# Altium schematic symbol library STM32f1.SchLib: 244 symbols (part 18 of 24)
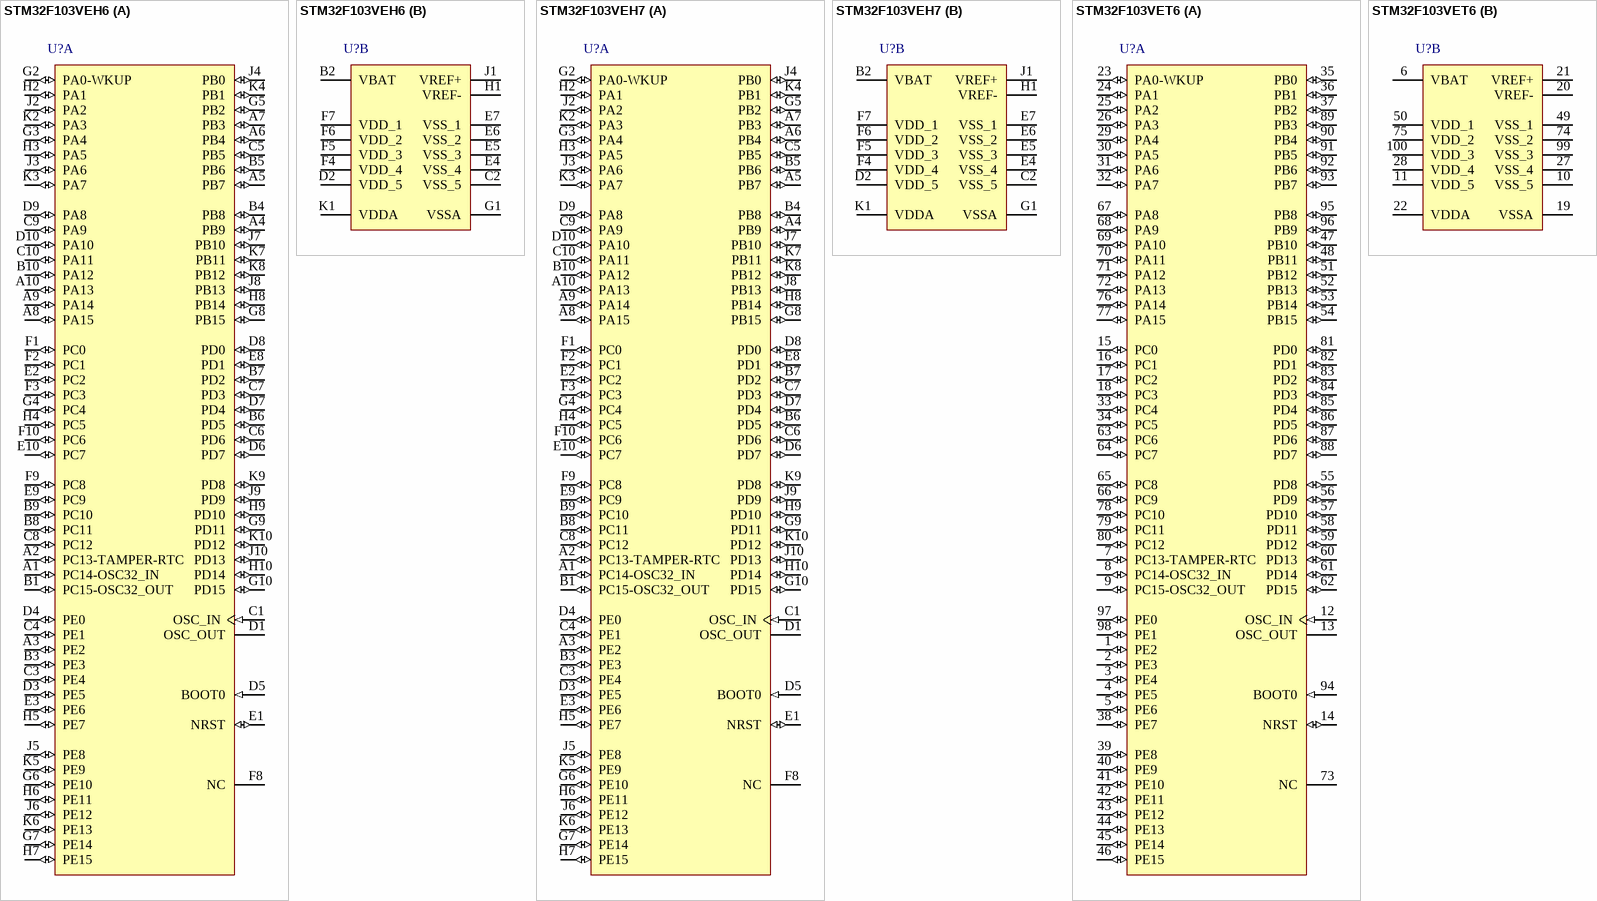
[diagram p59: symbols STM32F103VEH6 to STM32F103VET6]

## STM32F103VET6
designator U?
ARM Cortex-M3 32-bit MCU, 512 KB Flash, 64 KB Internal RAM, 80 I/Os, 100-pin LQFP, -40 to 85 degC, Tray; PartNumber: STM32F103VET6; A/D Converter: 3x12-bit (16 Channel); D/A Converter: 2x12-bit (2 Channel); FLASH Size (Prog) (kB): 512; I/Os (High Current): 80; Internal RAM Size (kB): 64; Operating Frequency(F) (Processor speed) (MHz): 72; Supply Voltage(Vcc) min (V): 2; DatasheetVersion: Rev. 8; PackageVersion: Rev. 1, 06/2013; PackageReference: LQFP100; PackageDescription: 100-Pin Low Profile Quad Flat Package, 14 x 14 mm Body, 0.5 mm Pitch; Supplier 1: Digi-Key; Supplier Part Number 1: 497-6443-ND; Supplier 2: Farnell; Supplier Part Number 2: 1624141; Supplier 3: Newark; Supplier Part Number 3: 01P4104; Supplier 4: Newark; Supplier Part Number 4: 57P1260; Supplier 5: Mouser; Supplier Part Number 5: 511-STM32F103VET6; Core: ARM Cortex-M3; Packing: Tray; Mounting Technology: Surface Mount; ComponentLink1Description: Manufacturer URL; ComponentLink1URL: http://www.st.com/web/en/home.html; ComponentLink2Description: Datasheet; ComponentLink2URL: http://www.st.com/st-web-ui/static/active/en/resource/technical/document/datasheet/CD00191185.pdf; ComponentLink3Description: Package Specification; ComponentLink3URL: http://www.st.com/st-web-ui/static/active/en/resource/technical/document/data_brief/DM00071938.pdf
footprint STM-LQFP100_N (Thin QFP, 100-Leads, Body 14x14mm, Pitch 0.5mm, IPC Medium Density)
footprint STM-LQFP100_L (Thin QFP, 100-Leads, Body 14x14mm, Pitch 0.5mm, IPC High Density)
footprint STM-LQFP100_M (Thin QFP, 100-Leads, Body 14x14mm, Pitch 0.5mm, IPC Low Density)
footprint STM-LQFP100_V (Thin QFP, 100-Leads, Body 14x14mm, Pitch 0.5mm, ST Recommended)
part A pins: 1 PE2 (io) "PE2/TRACECK/FSMC_A23", 2 PE3 (io) "PE3/TRACED0/FSMC_A19", 3 PE4 (io) "PE4/TRACED1/FSMC_A20", 4 PE5 (io) "PE5/TRACED2/FSMC_A21", 5 PE6 (io) "PE6/TRACED3/FSMC_A22", 7 PC13-TAMPER-RTC (io) "PC13-TAMPER-RTC/PC13/TAMPER-RTC", 8 PC14-OSC32_IN (io) "PC14-OSC32_IN/PC14/OSC32_IN", 9 PC15-OSC32_OUT (io) "PC15-OSC32_OUT/PC15/OSC32_OUT", 12 OSC_IN (in), 13 OSC_OUT, 14 NRST (io), 15 PC0 (io) "PC0/ADC123_IN10", 16 PC1 (io) "PC1/ADC123_IN11", 17 PC2 (io) "PC2/ADC123_IN12", 18 PC3 (io) "PC3/ADC123_IN13", 23 PA0-WKUP (io) "PA0-WKUP/PA0/WKUP/USART2_CTS/ADC123_IN0/TIM2_CH1_ETR/TIM5_CH1/TIM8_ETR", 24 PA1 (io) "PA1/USART2_RTS/ADC123_IN1/TIM5_CH2/TIM2_CH2", 25 PA2 (io) "PA2/USART2_TX/TIM5_CH3/ADC123_IN2/TIM2_CH3", 26 PA3 (io) "PA3/USART2_RX/TIM5_CH4/ADC123_IN3/TIM2_CH4", 29 PA4 (io) "PA4/SPI1_NSS/USART2_CK/DAC_OUT1/ADC12_IN4", 30 PA5 (io) "PA5/SPI1_SCK/DAC_OUT2/ADC12_IN5", 31 PA6 (io) "PA6/SPI1_MISO/TIM8_BKIN/ADC12_IN6/TIM3_CH1/TIM1_BKIN", 32 PA7 (io) "PA7/SPI1_MOSI/TIM8_CH1N/ADC12_IN7/TIM3_CH2/TIM1_CH1N", 33 PC4 (io) "PC4/ADC12_IN14", 34 PC5 (io) "PC5/ADC12_IN15", 35 PB0 (io) "PB0/ADC12_IN8/TIM3_CH3/TIM8_CH2N/TIM1_CH2N", 36 PB1 (io) "PB1/ADC12_IN9/TIM3_CH4/TIM8_CH3N/TIM1_CH3N", 37 PB2 (io) "PB2/BOOT1", 38 PE7 (io) "PE7/FSMC_D4/TIM1_ETR", 39 PE8 (io) "PE8/FSMC_D5/TIM1_CH1N", 40 PE9 (io) "PE9/FSMC_D6/TIM1_CH1", 41 PE10 (io) "PE10/FSMC_D7/TIM1_CH2N", 42 PE11 (io) "PE11/FSMC_D8/TIM1_CH2", 43 PE12 (io) "PE12/FSMC_D9/TIM1_CH3N", 44 PE13 (io) "PE13/FSMC_D10/TIM1_CH3", 45 PE14 (io) "PE14/FSMC_D11/TIM1_CH4", 46 PE15 (io) "PE15/FSMC_D12/TIM1_BKIN", 47 PB10 (io) "PB10/I2C2_SCL/USART3_TX/TIM2_CH3", 48 PB11 (io) "PB11/I2C2_SDA/USART3_RX/TIM2_CH4", 51 PB12 (io) "PB12/SPI2_NSS/I2S2_WS/I2C2_SMBA/USART3_CK/TIM1_BKIN", 52 PB13 (io) "PB13/SPI2_SCK/I2S2_CK/USART3_CTS/TIM1_CH1N", 53 PB14 (io) "PB14/SPI2_MISO/TIM1_CH2N/USART3_RTS", 54 PB15 (io) "PB15/SPI2_MOSI/I2S2_SD/TIM1_CH3N", 55 PD8 (io) "PD8/FSMC_D13/USART3_TX", 56 PD9 (io) "PD9/FSMC_D14/USART3_RX", 57 PD10 (io) "PD10/FSMC_D15/USART3_CK", 58 PD11 (io) "PD11/FSMC_A16/USART3_CTS", 59 PD12 (io) "PD12/FSMC_A17/TIM4_CH1/USART3_RTS", 60 PD13 (io) "PD13/FSMC_A18/TIM4_CH2", 61 PD14 (io) "PD14/FSMC_D0/TIM4_CH3", 62 PD15 (io) "PD15/FSMC_D1/TIM4_CH4", 63 PC6 (io) "PC6/I2S2_MCK/TIM8_CH1/SDIO_D6/TIM3_CH1", 64 PC7 (io) "PC7/I2S3_MCK/TIM8_CH2/SDIO_D7/TIM3_CH2", 65 PC8 (io) "PC8/TIM8_CH3/SDIO_D0/TIM3_CH3", 66 PC9 (io) "PC9/TIM8_CH4/SDIO_D1/TIM3_CH4", 67 PA8 (io) "PA8/USART1_CK/TIM1_CH1/MCO", 68 PA9 (io) "PA9/USART1_TX/TIM1_CH2", 69 PA10 (io) "PA10/USART1_RX/TIM1_CH3", 70 PA11 (io) "PA11/USART1_CTS/USBDM/CAN_RX/TIM1_CH4", 71 PA12 (io) "PA12/USART1_RTS/USBDP/CAN_TX/TIM1_ETR", 72 PA13 (io) "PA13/JTMS-SWDIO", 73 NC, 76 PA14 (io) "PA14/JTCK-SWCLK", 77 PA15 (io) "PA15/JTDI/SPI3_NSS/I2S3_WS/TIM2_CH1_ETR/SPI1_NSS", 78 PC10 (io) "PC10/UART4_TX/SDIO_D2/USART3_TX", 79 PC11 (io) "PC11/UART4_RX/SDIO_D3/USART3_RX", 80 PC12 (io) "PC12/UART5_TX/SDIO_CK/USART3_CK", 81 PD0 (io) "PD0/OSC_IN/FSMC_D2/CAN_RX", 82 PD1 (io) "PD1/OSC_OUT/FSMC_D3/CAN_TX", 83 PD2 (io) "PD2/TIM3_ETR/UART5_RX/SDIO_CMD", 84 PD3 (io) "PD3/FSMC_CLK/USART2_CTS", 85 PD4 (io) "PD4/FSMC_NOE/USART2_RTS", 86 PD5 (io) "PD5/FSMC_NWE/USART2_TX", 87 PD6 (io) "PD6/FSMC_NWAIT/USART2_RX", 88 PD7 (io) "PD7/FSMC_NE1/FSMC_NCE2/USART2_CK", 89 PB3 (io) "PB3/JTDO/SPI3_SCK/I2S3_CK/TRACESWO/TIM2_CH2/SPI1_SCK", 90 PB4 (io) "PB4/NJTRST/SPI3_MISO/TIM3_CH1/SPI1_MISO", 91 PB5 (io) "PB5/I2C1_SMBA/SPI3_MOSI/I2S3_SD/TIM3_CH2/SPI1_MOSI", 92 PB6 (io) "PB6/I2C1_SCL/TIM4_CH1/USART1_TX", 93 PB7 (io) "PB7/I2C1_SDA/FSMC_NADV/TIM4_CH2/USART1_RX", 94 BOOT0 (in), 95 PB8 (io) "PB8/TIM4_CH3/SDIO_D4/I2C1_SCL/CAN_RX", 96 PB9 (io) "PB9/TIM4_CH4/SDIO_D5/I2C1_SDA/CAN_TX", 97 PE0 (io) "PE0/TIM4_ETR/FSMC_NBL0", 98 PE1 (io) "PE1/FSMC_NBL1"
part B pins: 6 VBAT (power), 10 VSS_5 (power), 11 VDD_5 (power), 19 VSSA (power), 20 VREF- (power), 21 VREF+ (power), 22 VDDA (power), 27 VSS_4 (power), 28 VDD_4 (power), 49 VSS_1 (power), 50 VDD_1 (power), 74 VSS_2 (power), 75 VDD_2 (power), 99 VSS_3 (power), 100 VDD_3 (power)

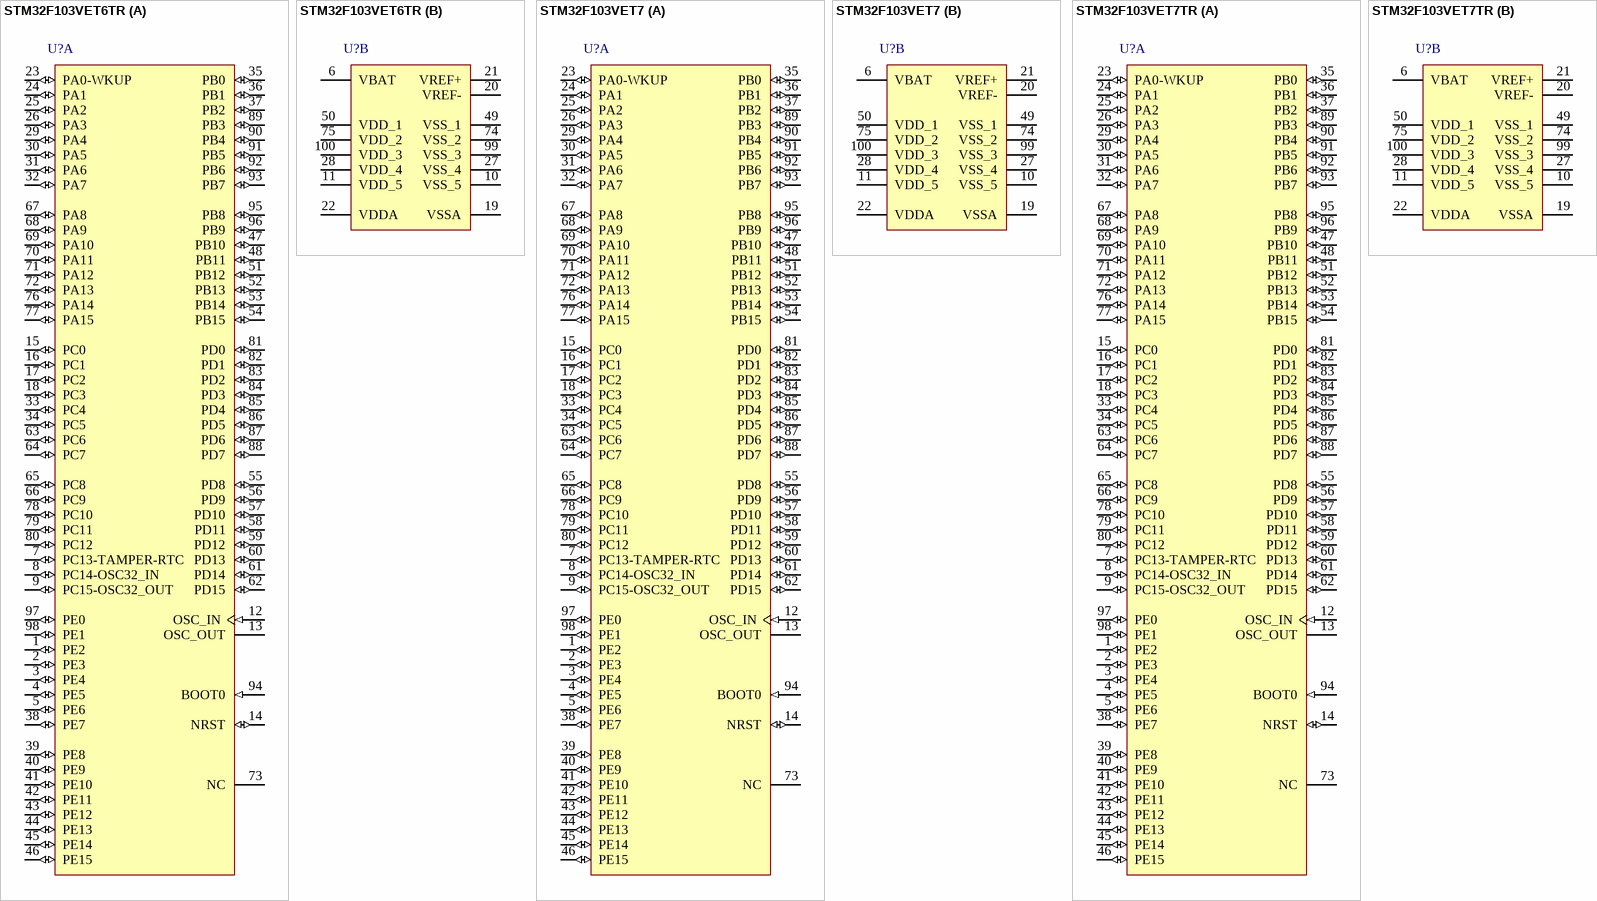
[diagram p31: symbols STM32F103VET6TR to STM32F103VET7TR]

## STM32F103VET6TR
designator U?
ARM Cortex-M3 32-bit MCU, 512 KB Flash, 64 KB Internal RAM, 80 I/Os, 100-pin LQFP, -40 to 85 degC, Tape and Reel; PartNumber: STM32F103VET6TR; A/D Converter: 3x12-bit (16 Channel); D/A Converter: 2x12-bit (2 Channel); FLASH Size (Prog) (kB): 512; I/Os (High Current): 80; Internal RAM Size (kB): 64; Operating Frequency(F) (Processor speed) (MHz): 72; Supply Voltage(Vcc) min (V): 2; DatasheetVersion: Rev. 8; PackageVersion: Rev. 1, 06/2013; PackageReference: LQFP100; PackageDescription: 100-Pin Low Profile Quad Flat Package, 14 x 14 mm Body, 0.5 mm Pitch; Supplier 1: Digi-Key; Supplier Part Number 1: STM32F103VET6TR-ND; Supplier 2: Mouser; Supplier Part Number 2: 511-STM32F103VET6TR; Core: ARM Cortex-M3; Packing: Tape and Reel; Mounting Technology: Surface Mount; ComponentLink1Description: Manufacturer URL; ComponentLink1URL: http://www.st.com/web/en/home.html; ComponentLink2Description: Datasheet; ComponentLink2URL: http://www.st.com/st-web-ui/static/active/en/resource/technical/document/datasheet/CD00191185.pdf; ComponentLink3Description: Package Specification; ComponentLink3URL: http://www.st.com/st-web-ui/static/active/en/resource/technical/document/data_brief/DM00071938.pdf
footprint STM-LQFP100_N (Thin QFP, 100-Leads, Body 14x14mm, Pitch 0.5mm, IPC Medium Density)
footprint STM-LQFP100_L (Thin QFP, 100-Leads, Body 14x14mm, Pitch 0.5mm, IPC High Density)
footprint STM-LQFP100_M (Thin QFP, 100-Leads, Body 14x14mm, Pitch 0.5mm, IPC Low Density)
footprint STM-LQFP100_V (Thin QFP, 100-Leads, Body 14x14mm, Pitch 0.5mm, ST Recommended)
part A pins: 1 PE2 (io) "PE2/TRACECK/FSMC_A23", 2 PE3 (io) "PE3/TRACED0/FSMC_A19", 3 PE4 (io) "PE4/TRACED1/FSMC_A20", 4 PE5 (io) "PE5/TRACED2/FSMC_A21", 5 PE6 (io) "PE6/TRACED3/FSMC_A22", 7 PC13-TAMPER-RTC (io) "PC13-TAMPER-RTC/PC13/TAMPER-RTC", 8 PC14-OSC32_IN (io) "PC14-OSC32_IN/PC14/OSC32_IN", 9 PC15-OSC32_OUT (io) "PC15-OSC32_OUT/PC15/OSC32_OUT", 12 OSC_IN (in), 13 OSC_OUT, 14 NRST (io), 15 PC0 (io) "PC0/ADC123_IN10", 16 PC1 (io) "PC1/ADC123_IN11", 17 PC2 (io) "PC2/ADC123_IN12", 18 PC3 (io) "PC3/ADC123_IN13", 23 PA0-WKUP (io) "PA0-WKUP/PA0/WKUP/USART2_CTS/ADC123_IN0/TIM2_CH1_ETR/TIM5_CH1/TIM8_ETR", 24 PA1 (io) "PA1/USART2_RTS/ADC123_IN1/TIM5_CH2/TIM2_CH2", 25 PA2 (io) "PA2/USART2_TX/TIM5_CH3/ADC123_IN2/TIM2_CH3", 26 PA3 (io) "PA3/USART2_RX/TIM5_CH4/ADC123_IN3/TIM2_CH4", 29 PA4 (io) "PA4/SPI1_NSS/USART2_CK/DAC_OUT1/ADC12_IN4", 30 PA5 (io) "PA5/SPI1_SCK/DAC_OUT2/ADC12_IN5", 31 PA6 (io) "PA6/SPI1_MISO/TIM8_BKIN/ADC12_IN6/TIM3_CH1/TIM1_BKIN", 32 PA7 (io) "PA7/SPI1_MOSI/TIM8_CH1N/ADC12_IN7/TIM3_CH2/TIM1_CH1N", 33 PC4 (io) "PC4/ADC12_IN14", 34 PC5 (io) "PC5/ADC12_IN15", 35 PB0 (io) "PB0/ADC12_IN8/TIM3_CH3/TIM8_CH2N/TIM1_CH2N", 36 PB1 (io) "PB1/ADC12_IN9/TIM3_CH4/TIM8_CH3N/TIM1_CH3N", 37 PB2 (io) "PB2/BOOT1", 38 PE7 (io) "PE7/FSMC_D4/TIM1_ETR", 39 PE8 (io) "PE8/FSMC_D5/TIM1_CH1N", 40 PE9 (io) "PE9/FSMC_D6/TIM1_CH1", 41 PE10 (io) "PE10/FSMC_D7/TIM1_CH2N", 42 PE11 (io) "PE11/FSMC_D8/TIM1_CH2", 43 PE12 (io) "PE12/FSMC_D9/TIM1_CH3N", 44 PE13 (io) "PE13/FSMC_D10/TIM1_CH3", 45 PE14 (io) "PE14/FSMC_D11/TIM1_CH4", 46 PE15 (io) "PE15/FSMC_D12/TIM1_BKIN", 47 PB10 (io) "PB10/I2C2_SCL/USART3_TX/TIM2_CH3", 48 PB11 (io) "PB11/I2C2_SDA/USART3_RX/TIM2_CH4", 51 PB12 (io) "PB12/SPI2_NSS/I2S2_WS/I2C2_SMBA/USART3_CK/TIM1_BKIN", 52 PB13 (io) "PB13/SPI2_SCK/I2S2_CK/USART3_CTS/TIM1_CH1N", 53 PB14 (io) "PB14/SPI2_MISO/TIM1_CH2N/USART3_RTS", 54 PB15 (io) "PB15/SPI2_MOSI/I2S2_SD/TIM1_CH3N", 55 PD8 (io) "PD8/FSMC_D13/USART3_TX", 56 PD9 (io) "PD9/FSMC_D14/USART3_RX", 57 PD10 (io) "PD10/FSMC_D15/USART3_CK", 58 PD11 (io) "PD11/FSMC_A16/USART3_CTS", 59 PD12 (io) "PD12/FSMC_A17/TIM4_CH1/USART3_RTS", 60 PD13 (io) "PD13/FSMC_A18/TIM4_CH2", 61 PD14 (io) "PD14/FSMC_D0/TIM4_CH3", 62 PD15 (io) "PD15/FSMC_D1/TIM4_CH4", 63 PC6 (io) "PC6/I2S2_MCK/TIM8_CH1/SDIO_D6/TIM3_CH1", 64 PC7 (io) "PC7/I2S3_MCK/TIM8_CH2/SDIO_D7/TIM3_CH2", 65 PC8 (io) "PC8/TIM8_CH3/SDIO_D0/TIM3_CH3", 66 PC9 (io) "PC9/TIM8_CH4/SDIO_D1/TIM3_CH4", 67 PA8 (io) "PA8/USART1_CK/TIM1_CH1/MCO", 68 PA9 (io) "PA9/USART1_TX/TIM1_CH2", 69 PA10 (io) "PA10/USART1_RX/TIM1_CH3", 70 PA11 (io) "PA11/USART1_CTS/USBDM/CAN_RX/TIM1_CH4", 71 PA12 (io) "PA12/USART1_RTS/USBDP/CAN_TX/TIM1_ETR", 72 PA13 (io) "PA13/JTMS-SWDIO", 73 NC, 76 PA14 (io) "PA14/JTCK-SWCLK", 77 PA15 (io) "PA15/JTDI/SPI3_NSS/I2S3_WS/TIM2_CH1_ETR/SPI1_NSS", 78 PC10 (io) "PC10/UART4_TX/SDIO_D2/USART3_TX", 79 PC11 (io) "PC11/UART4_RX/SDIO_D3/USART3_RX", 80 PC12 (io) "PC12/UART5_TX/SDIO_CK/USART3_CK", 81 PD0 (io) "PD0/OSC_IN/FSMC_D2/CAN_RX", 82 PD1 (io) "PD1/OSC_OUT/FSMC_D3/CAN_TX", 83 PD2 (io) "PD2/TIM3_ETR/UART5_RX/SDIO_CMD", 84 PD3 (io) "PD3/FSMC_CLK/USART2_CTS", 85 PD4 (io) "PD4/FSMC_NOE/USART2_RTS", 86 PD5 (io) "PD5/FSMC_NWE/USART2_TX", 87 PD6 (io) "PD6/FSMC_NWAIT/USART2_RX", 88 PD7 (io) "PD7/FSMC_NE1/FSMC_NCE2/USART2_CK", 89 PB3 (io) "PB3/JTDO/SPI3_SCK/I2S3_CK/TRACESWO/TIM2_CH2/SPI1_SCK", 90 PB4 (io) "PB4/NJTRST/SPI3_MISO/TIM3_CH1/SPI1_MISO", 91 PB5 (io) "PB5/I2C1_SMBA/SPI3_MOSI/I2S3_SD/TIM3_CH2/SPI1_MOSI", 92 PB6 (io) "PB6/I2C1_SCL/TIM4_CH1/USART1_TX", 93 PB7 (io) "PB7/I2C1_SDA/FSMC_NADV/TIM4_CH2/USART1_RX", 94 BOOT0 (in), 95 PB8 (io) "PB8/TIM4_CH3/SDIO_D4/I2C1_SCL/CAN_RX", 96 PB9 (io) "PB9/TIM4_CH4/SDIO_D5/I2C1_SDA/CAN_TX", 97 PE0 (io) "PE0/TIM4_ETR/FSMC_NBL0", 98 PE1 (io) "PE1/FSMC_NBL1"
part B pins: 6 VBAT (power), 10 VSS_5 (power), 11 VDD_5 (power), 19 VSSA (power), 20 VREF- (power), 21 VREF+ (power), 22 VDDA (power), 27 VSS_4 (power), 28 VDD_4 (power), 49 VSS_1 (power), 50 VDD_1 (power), 74 VSS_2 (power), 75 VDD_2 (power), 99 VSS_3 (power), 100 VDD_3 (power)

## STM32F103VET7
designator U?
ARM Cortex-M3 32-bit MCU, 512 KB Flash, 64 KB Internal RAM, 80 I/Os, 100-pin LQFP, -40 to 105 degC, Tray; PartNumber: STM32F103VET7; A/D Converter: 3x12-bit (16 Channel); D/A Converter: 2x12-bit (2 Channel); FLASH Size (Prog) (kB): 512; I/Os (High Current): 80; Internal RAM Size (kB): 64; Operating Frequency(F) (Processor speed) (MHz): 72; Supply Voltage(Vcc) min (V): 2; DatasheetVersion: Rev. 8; PackageVersion: Rev. 1, 06/2013; PackageReference: LQFP100; PackageDescription: 100-Pin Low Profile Quad Flat Package, 14 x 14 mm Body, 0.5 mm Pitch; Supplier 1: Digi-Key; Supplier Part Number 1: 497-11540-ND; Supplier 2: Farnell; Supplier Part Number 2: 2060893; Supplier 3: Newark; Supplier Part Number 3: 65T3775; Supplier 4: Mouser; Supplier Part Number 4: 511-STM32F103VET7; Core: ARM Cortex-M3; Packing: Tray; Mounting Technology: Surface Mount; ComponentLink1Description: Manufacturer URL; ComponentLink1URL: http://www.st.com/web/en/home.html; ComponentLink2Description: Datasheet; ComponentLink2URL: http://www.st.com/st-web-ui/static/active/en/resource/technical/document/datasheet/CD00191185.pdf; ComponentLink3Description: Package Specification; ComponentLink3URL: http://www.st.com/st-web-ui/static/active/en/resource/technical/document/data_brief/DM00071938.pdf
footprint STM-LQFP100_N (Thin QFP, 100-Leads, Body 14x14mm, Pitch 0.5mm, IPC Medium Density)
footprint STM-LQFP100_L (Thin QFP, 100-Leads, Body 14x14mm, Pitch 0.5mm, IPC High Density)
footprint STM-LQFP100_M (Thin QFP, 100-Leads, Body 14x14mm, Pitch 0.5mm, IPC Low Density)
footprint STM-LQFP100_V (Thin QFP, 100-Leads, Body 14x14mm, Pitch 0.5mm, ST Recommended)
part A pins: 1 PE2 (io) "PE2/TRACECK/FSMC_A23", 2 PE3 (io) "PE3/TRACED0/FSMC_A19", 3 PE4 (io) "PE4/TRACED1/FSMC_A20", 4 PE5 (io) "PE5/TRACED2/FSMC_A21", 5 PE6 (io) "PE6/TRACED3/FSMC_A22", 7 PC13-TAMPER-RTC (io) "PC13-TAMPER-RTC/PC13/TAMPER-RTC", 8 PC14-OSC32_IN (io) "PC14-OSC32_IN/PC14/OSC32_IN", 9 PC15-OSC32_OUT (io) "PC15-OSC32_OUT/PC15/OSC32_OUT", 12 OSC_IN (in), 13 OSC_OUT, 14 NRST (io), 15 PC0 (io) "PC0/ADC123_IN10", 16 PC1 (io) "PC1/ADC123_IN11", 17 PC2 (io) "PC2/ADC123_IN12", 18 PC3 (io) "PC3/ADC123_IN13", 23 PA0-WKUP (io) "PA0-WKUP/PA0/WKUP/USART2_CTS/ADC123_IN0/TIM2_CH1_ETR/TIM5_CH1/TIM8_ETR", 24 PA1 (io) "PA1/USART2_RTS/ADC123_IN1/TIM5_CH2/TIM2_CH2", 25 PA2 (io) "PA2/USART2_TX/TIM5_CH3/ADC123_IN2/TIM2_CH3", 26 PA3 (io) "PA3/USART2_RX/TIM5_CH4/ADC123_IN3/TIM2_CH4", 29 PA4 (io) "PA4/SPI1_NSS/USART2_CK/DAC_OUT1/ADC12_IN4", 30 PA5 (io) "PA5/SPI1_SCK/DAC_OUT2/ADC12_IN5", 31 PA6 (io) "PA6/SPI1_MISO/TIM8_BKIN/ADC12_IN6/TIM3_CH1/TIM1_BKIN", 32 PA7 (io) "PA7/SPI1_MOSI/TIM8_CH1N/ADC12_IN7/TIM3_CH2/TIM1_CH1N", 33 PC4 (io) "PC4/ADC12_IN14", 34 PC5 (io) "PC5/ADC12_IN15", 35 PB0 (io) "PB0/ADC12_IN8/TIM3_CH3/TIM8_CH2N/TIM1_CH2N", 36 PB1 (io) "PB1/ADC12_IN9/TIM3_CH4/TIM8_CH3N/TIM1_CH3N", 37 PB2 (io) "PB2/BOOT1", 38 PE7 (io) "PE7/FSMC_D4/TIM1_ETR", 39 PE8 (io) "PE8/FSMC_D5/TIM1_CH1N", 40 PE9 (io) "PE9/FSMC_D6/TIM1_CH1", 41 PE10 (io) "PE10/FSMC_D7/TIM1_CH2N", 42 PE11 (io) "PE11/FSMC_D8/TIM1_CH2", 43 PE12 (io) "PE12/FSMC_D9/TIM1_CH3N", 44 PE13 (io) "PE13/FSMC_D10/TIM1_CH3", 45 PE14 (io) "PE14/FSMC_D11/TIM1_CH4", 46 PE15 (io) "PE15/FSMC_D12/TIM1_BKIN", 47 PB10 (io) "PB10/I2C2_SCL/USART3_TX/TIM2_CH3", 48 PB11 (io) "PB11/I2C2_SDA/USART3_RX/TIM2_CH4", 51 PB12 (io) "PB12/SPI2_NSS/I2S2_WS/I2C2_SMBA/USART3_CK/TIM1_BKIN", 52 PB13 (io) "PB13/SPI2_SCK/I2S2_CK/USART3_CTS/TIM1_CH1N", 53 PB14 (io) "PB14/SPI2_MISO/TIM1_CH2N/USART3_RTS", 54 PB15 (io) "PB15/SPI2_MOSI/I2S2_SD/TIM1_CH3N", 55 PD8 (io) "PD8/FSMC_D13/USART3_TX", 56 PD9 (io) "PD9/FSMC_D14/USART3_RX", 57 PD10 (io) "PD10/FSMC_D15/USART3_CK", 58 PD11 (io) "PD11/FSMC_A16/USART3_CTS", 59 PD12 (io) "PD12/FSMC_A17/TIM4_CH1/USART3_RTS", 60 PD13 (io) "PD13/FSMC_A18/TIM4_CH2", 61 PD14 (io) "PD14/FSMC_D0/TIM4_CH3", 62 PD15 (io) "PD15/FSMC_D1/TIM4_CH4", 63 PC6 (io) "PC6/I2S2_MCK/TIM8_CH1/SDIO_D6/TIM3_CH1", 64 PC7 (io) "PC7/I2S3_MCK/TIM8_CH2/SDIO_D7/TIM3_CH2", 65 PC8 (io) "PC8/TIM8_CH3/SDIO_D0/TIM3_CH3", 66 PC9 (io) "PC9/TIM8_CH4/SDIO_D1/TIM3_CH4", 67 PA8 (io) "PA8/USART1_CK/TIM1_CH1/MCO", 68 PA9 (io) "PA9/USART1_TX/TIM1_CH2", 69 PA10 (io) "PA10/USART1_RX/TIM1_CH3", 70 PA11 (io) "PA11/USART1_CTS/USBDM/CAN_RX/TIM1_CH4", 71 PA12 (io) "PA12/USART1_RTS/USBDP/CAN_TX/TIM1_ETR", 72 PA13 (io) "PA13/JTMS-SWDIO", 73 NC, 76 PA14 (io) "PA14/JTCK-SWCLK", 77 PA15 (io) "PA15/JTDI/SPI3_NSS/I2S3_WS/TIM2_CH1_ETR/SPI1_NSS", 78 PC10 (io) "PC10/UART4_TX/SDIO_D2/USART3_TX", 79 PC11 (io) "PC11/UART4_RX/SDIO_D3/USART3_RX", 80 PC12 (io) "PC12/UART5_TX/SDIO_CK/USART3_CK", 81 PD0 (io) "PD0/OSC_IN/FSMC_D2/CAN_RX", 82 PD1 (io) "PD1/OSC_OUT/FSMC_D3/CAN_TX", 83 PD2 (io) "PD2/TIM3_ETR/UART5_RX/SDIO_CMD", 84 PD3 (io) "PD3/FSMC_CLK/USART2_CTS", 85 PD4 (io) "PD4/FSMC_NOE/USART2_RTS", 86 PD5 (io) "PD5/FSMC_NWE/USART2_TX", 87 PD6 (io) "PD6/FSMC_NWAIT/USART2_RX", 88 PD7 (io) "PD7/FSMC_NE1/FSMC_NCE2/USART2_CK", 89 PB3 (io) "PB3/JTDO/SPI3_SCK/I2S3_CK/TRACESWO/TIM2_CH2/SPI1_SCK", 90 PB4 (io) "PB4/NJTRST/SPI3_MISO/TIM3_CH1/SPI1_MISO", 91 PB5 (io) "PB5/I2C1_SMBA/SPI3_MOSI/I2S3_SD/TIM3_CH2/SPI1_MOSI", 92 PB6 (io) "PB6/I2C1_SCL/TIM4_CH1/USART1_TX", 93 PB7 (io) "PB7/I2C1_SDA/FSMC_NADV/TIM4_CH2/USART1_RX", 94 BOOT0 (in), 95 PB8 (io) "PB8/TIM4_CH3/SDIO_D4/I2C1_SCL/CAN_RX", 96 PB9 (io) "PB9/TIM4_CH4/SDIO_D5/I2C1_SDA/CAN_TX", 97 PE0 (io) "PE0/TIM4_ETR/FSMC_NBL0", 98 PE1 (io) "PE1/FSMC_NBL1"
part B pins: 6 VBAT (power), 10 VSS_5 (power), 11 VDD_5 (power), 19 VSSA (power), 20 VREF- (power), 21 VREF+ (power), 22 VDDA (power), 27 VSS_4 (power), 28 VDD_4 (power), 49 VSS_1 (power), 50 VDD_1 (power), 74 VSS_2 (power), 75 VDD_2 (power), 99 VSS_3 (power), 100 VDD_3 (power)

## STM32F103VET7TR
designator U?
ARM Cortex-M3 32-bit MCU, 512 KB Flash, 64 KB Internal RAM, 80 I/Os, 100-pin LQFP, -40 to 105 degC, Tape and Reel; PartNumber: STM32F103VET7TR; A/D Converter: 3x12-bit (16 Channel); D/A Converter: 2x12-bit (2 Channel); FLASH Size (Prog) (kB): 512; I/Os (High Current): 80; Internal RAM Size (kB): 64; Operating Frequency(F) (Processor speed) (MHz): 72; Supply Voltage(Vcc) min (V): 2; DatasheetVersion: Rev. 8; PackageVersion: Rev. 1, 06/2013; PackageReference: LQFP100; PackageDescription: 100-Pin Low Profile Quad Flat Package, 14 x 14 mm Body, 0.5 mm Pitch; Supplier 1: Digi-Key; Supplier Part Number 1: STM32F103VET7TR-ND; Supplier 2: Mouser; Supplier Part Number 2: 511-STM32F103VET7TR; Core: ARM Cortex-M3; Packing: Tape and Reel; Mounting Technology: Surface Mount; ComponentLink1Description: Manufacturer URL; ComponentLink1URL: http://www.st.com/web/en/home.html; ComponentLink2Description: Datasheet; ComponentLink2URL: http://www.st.com/st-web-ui/static/active/en/resource/technical/document/datasheet/CD00191185.pdf; ComponentLink3Description: Package Specification; ComponentLink3URL: http://www.st.com/st-web-ui/static/active/en/resource/technical/document/data_brief/DM00071938.pdf
footprint STM-LQFP100_N (Thin QFP, 100-Leads, Body 14x14mm, Pitch 0.5mm, IPC Medium Density)
footprint STM-LQFP100_L (Thin QFP, 100-Leads, Body 14x14mm, Pitch 0.5mm, IPC High Density)
footprint STM-LQFP100_M (Thin QFP, 100-Leads, Body 14x14mm, Pitch 0.5mm, IPC Low Density)
footprint STM-LQFP100_V (Thin QFP, 100-Leads, Body 14x14mm, Pitch 0.5mm, ST Recommended)
part A pins: 1 PE2 (io) "PE2/TRACECK/FSMC_A23", 2 PE3 (io) "PE3/TRACED0/FSMC_A19", 3 PE4 (io) "PE4/TRACED1/FSMC_A20", 4 PE5 (io) "PE5/TRACED2/FSMC_A21", 5 PE6 (io) "PE6/TRACED3/FSMC_A22", 7 PC13-TAMPER-RTC (io) "PC13-TAMPER-RTC/PC13/TAMPER-RTC", 8 PC14-OSC32_IN (io) "PC14-OSC32_IN/PC14/OSC32_IN", 9 PC15-OSC32_OUT (io) "PC15-OSC32_OUT/PC15/OSC32_OUT", 12 OSC_IN (in), 13 OSC_OUT, 14 NRST (io), 15 PC0 (io) "PC0/ADC123_IN10", 16 PC1 (io) "PC1/ADC123_IN11", 17 PC2 (io) "PC2/ADC123_IN12", 18 PC3 (io) "PC3/ADC123_IN13", 23 PA0-WKUP (io) "PA0-WKUP/PA0/WKUP/USART2_CTS/ADC123_IN0/TIM2_CH1_ETR/TIM5_CH1/TIM8_ETR", 24 PA1 (io) "PA1/USART2_RTS/ADC123_IN1/TIM5_CH2/TIM2_CH2", 25 PA2 (io) "PA2/USART2_TX/TIM5_CH3/ADC123_IN2/TIM2_CH3", 26 PA3 (io) "PA3/USART2_RX/TIM5_CH4/ADC123_IN3/TIM2_CH4", 29 PA4 (io) "PA4/SPI1_NSS/USART2_CK/DAC_OUT1/ADC12_IN4", 30 PA5 (io) "PA5/SPI1_SCK/DAC_OUT2/ADC12_IN5", 31 PA6 (io) "PA6/SPI1_MISO/TIM8_BKIN/ADC12_IN6/TIM3_CH1/TIM1_BKIN", 32 PA7 (io) "PA7/SPI1_MOSI/TIM8_CH1N/ADC12_IN7/TIM3_CH2/TIM1_CH1N", 33 PC4 (io) "PC4/ADC12_IN14", 34 PC5 (io) "PC5/ADC12_IN15", 35 PB0 (io) "PB0/ADC12_IN8/TIM3_CH3/TIM8_CH2N/TIM1_CH2N", 36 PB1 (io) "PB1/ADC12_IN9/TIM3_CH4/TIM8_CH3N/TIM1_CH3N", 37 PB2 (io) "PB2/BOOT1", 38 PE7 (io) "PE7/FSMC_D4/TIM1_ETR", 39 PE8 (io) "PE8/FSMC_D5/TIM1_CH1N", 40 PE9 (io) "PE9/FSMC_D6/TIM1_CH1", 41 PE10 (io) "PE10/FSMC_D7/TIM1_CH2N", 42 PE11 (io) "PE11/FSMC_D8/TIM1_CH2", 43 PE12 (io) "PE12/FSMC_D9/TIM1_CH3N", 44 PE13 (io) "PE13/FSMC_D10/TIM1_CH3", 45 PE14 (io) "PE14/FSMC_D11/TIM1_CH4", 46 PE15 (io) "PE15/FSMC_D12/TIM1_BKIN", 47 PB10 (io) "PB10/I2C2_SCL/USART3_TX/TIM2_CH3", 48 PB11 (io) "PB11/I2C2_SDA/USART3_RX/TIM2_CH4", 51 PB12 (io) "PB12/SPI2_NSS/I2S2_WS/I2C2_SMBA/USART3_CK/TIM1_BKIN", 52 PB13 (io) "PB13/SPI2_SCK/I2S2_CK/USART3_CTS/TIM1_CH1N", 53 PB14 (io) "PB14/SPI2_MISO/TIM1_CH2N/USART3_RTS", 54 PB15 (io) "PB15/SPI2_MOSI/I2S2_SD/TIM1_CH3N", 55 PD8 (io) "PD8/FSMC_D13/USART3_TX", 56 PD9 (io) "PD9/FSMC_D14/USART3_RX", 57 PD10 (io) "PD10/FSMC_D15/USART3_CK", 58 PD11 (io) "PD11/FSMC_A16/USART3_CTS", 59 PD12 (io) "PD12/FSMC_A17/TIM4_CH1/USART3_RTS", 60 PD13 (io) "PD13/FSMC_A18/TIM4_CH2", 61 PD14 (io) "PD14/FSMC_D0/TIM4_CH3", 62 PD15 (io) "PD15/FSMC_D1/TIM4_CH4", 63 PC6 (io) "PC6/I2S2_MCK/TIM8_CH1/SDIO_D6/TIM3_CH1", 64 PC7 (io) "PC7/I2S3_MCK/TIM8_CH2/SDIO_D7/TIM3_CH2", 65 PC8 (io) "PC8/TIM8_CH3/SDIO_D0/TIM3_CH3", 66 PC9 (io) "PC9/TIM8_CH4/SDIO_D1/TIM3_CH4", 67 PA8 (io) "PA8/USART1_CK/TIM1_CH1/MCO", 68 PA9 (io) "PA9/USART1_TX/TIM1_CH2", 69 PA10 (io) "PA10/USART1_RX/TIM1_CH3", 70 PA11 (io) "PA11/USART1_CTS/USBDM/CAN_RX/TIM1_CH4", 71 PA12 (io) "PA12/USART1_RTS/USBDP/CAN_TX/TIM1_ETR", 72 PA13 (io) "PA13/JTMS-SWDIO", 73 NC, 76 PA14 (io) "PA14/JTCK-SWCLK", 77 PA15 (io) "PA15/JTDI/SPI3_NSS/I2S3_WS/TIM2_CH1_ETR/SPI1_NSS", 78 PC10 (io) "PC10/UART4_TX/SDIO_D2/USART3_TX", 79 PC11 (io) "PC11/UART4_RX/SDIO_D3/USART3_RX", 80 PC12 (io) "PC12/UART5_TX/SDIO_CK/USART3_CK", 81 PD0 (io) "PD0/OSC_IN/FSMC_D2/CAN_RX", 82 PD1 (io) "PD1/OSC_OUT/FSMC_D3/CAN_TX", 83 PD2 (io) "PD2/TIM3_ETR/UART5_RX/SDIO_CMD", 84 PD3 (io) "PD3/FSMC_CLK/USART2_CTS", 85 PD4 (io) "PD4/FSMC_NOE/USART2_RTS", 86 PD5 (io) "PD5/FSMC_NWE/USART2_TX", 87 PD6 (io) "PD6/FSMC_NWAIT/USART2_RX", 88 PD7 (io) "PD7/FSMC_NE1/FSMC_NCE2/USART2_CK", 89 PB3 (io) "PB3/JTDO/SPI3_SCK/I2S3_CK/TRACESWO/TIM2_CH2/SPI1_SCK", 90 PB4 (io) "PB4/NJTRST/SPI3_MISO/TIM3_CH1/SPI1_MISO", 91 PB5 (io) "PB5/I2C1_SMBA/SPI3_MOSI/I2S3_SD/TIM3_CH2/SPI1_MOSI", 92 PB6 (io) "PB6/I2C1_SCL/TIM4_CH1/USART1_TX", 93 PB7 (io) "PB7/I2C1_SDA/FSMC_NADV/TIM4_CH2/USART1_RX", 94 BOOT0 (in), 95 PB8 (io) "PB8/TIM4_CH3/SDIO_D4/I2C1_SCL/CAN_RX", 96 PB9 (io) "PB9/TIM4_CH4/SDIO_D5/I2C1_SDA/CAN_TX", 97 PE0 (io) "PE0/TIM4_ETR/FSMC_NBL0", 98 PE1 (io) "PE1/FSMC_NBL1"
part B pins: 6 VBAT (power), 10 VSS_5 (power), 11 VDD_5 (power), 19 VSSA (power), 20 VREF- (power), 21 VREF+ (power), 22 VDDA (power), 27 VSS_4 (power), 28 VDD_4 (power), 49 VSS_1 (power), 50 VDD_1 (power), 74 VSS_2 (power), 75 VDD_2 (power), 99 VSS_3 (power), 100 VDD_3 (power)

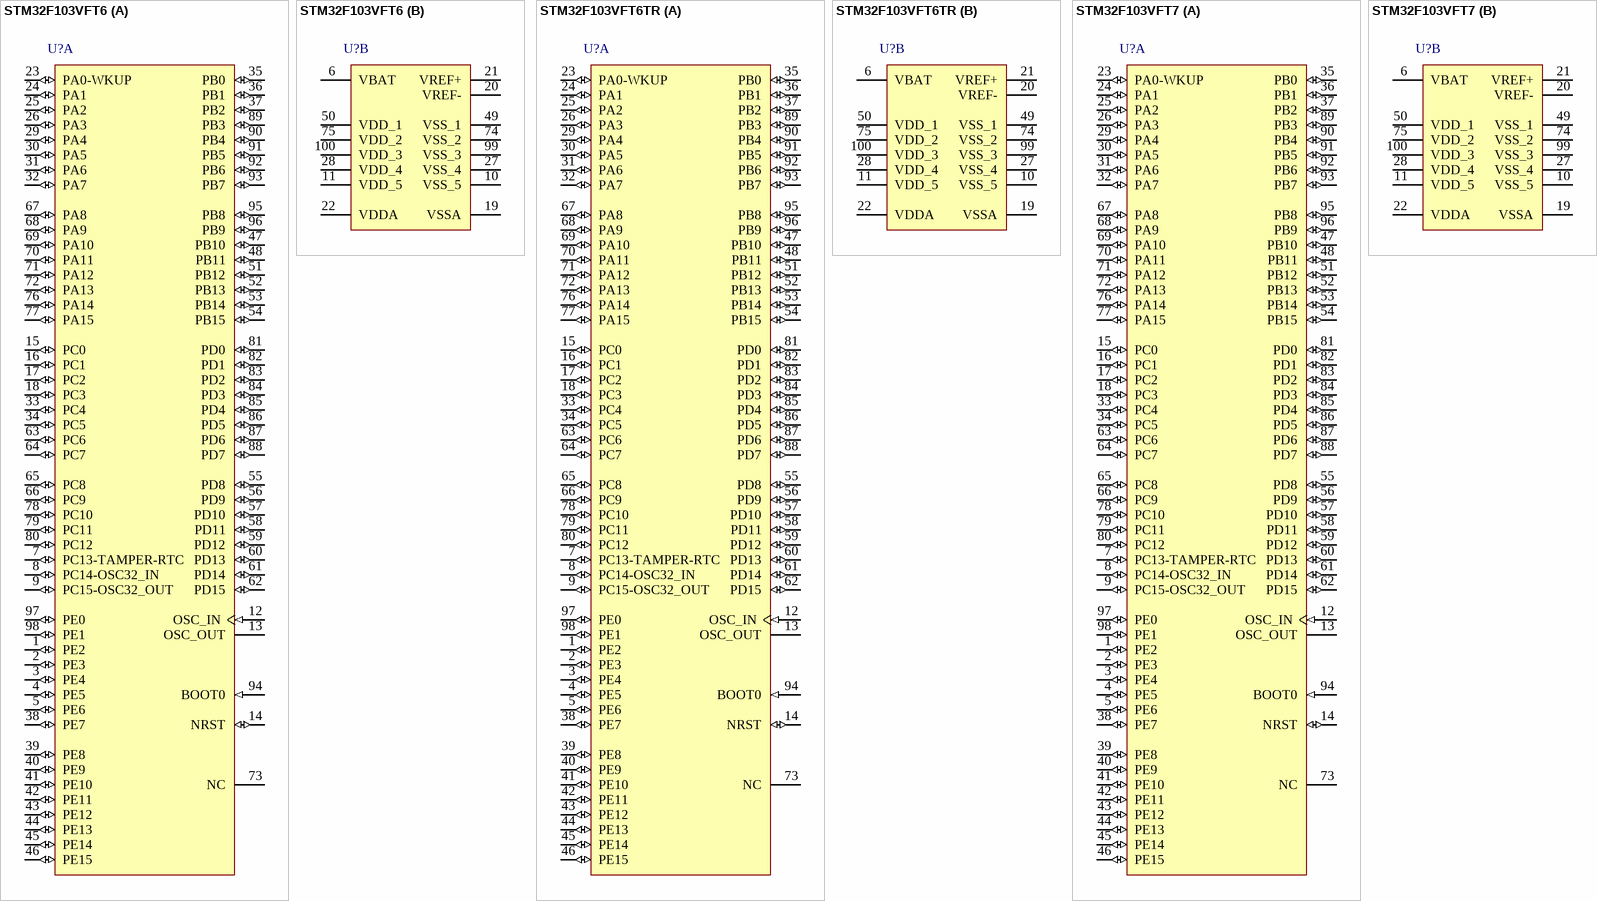
[diagram p32: symbols STM32F103VFT6 to STM32F103VFT7]

## STM32F103VFT6
designator U?
ARM Cortex-M3 32-bit MCU, 768 KB Flash, 96 KB Internal RAM, 80 I/Os, 100-pin LQFP, -40 to 85 degC, Tray; PartNumber: STM32F103VFT6; A/D Converter: 3x12-bit (16 Channel); D/A Converter: 2x12-bit (2 Channel); FLASH Size (Prog) (kB): 768; I/Os (High Current): 80; Internal RAM Size (kB): 96; Operating Frequency(F) (Processor speed) (MHz): 72; Supply Voltage(Vcc) min (V): 2; DatasheetVersion: Rev. 3; PackageVersion: Rev. 1, 06/2013; PackageReference: LQFP100; PackageDescription: 100-Pin Low Profile Quad Flat Package, 14 x 14 mm Body, 0.5 mm Pitch; Supplier 1: Digi-Key; Supplier Part Number 1: 497-11119-ND; Supplier 2: Farnell; Supplier Part Number 2: 1899019; Supplier 3: Newark; Supplier Part Number 3: 55T3937; Supplier 4: Newark; Supplier Part Number 4: 21T4017; Supplier 5: Mouser; Supplier Part Number 5: 511-STM32F103VFT6; Core: ARM Cortex-M3; Packing: Tray; Mounting Technology: Surface Mount; ComponentLink1Description: Manufacturer URL; ComponentLink1URL: http://www.st.com/web/en/home.html; ComponentLink2Description: Datasheet; ComponentLink2URL: http://www.st.com/st-web-ui/static/active/en/resource/technical/document/datasheet/CD00253742.pdf; ComponentLink3Description: Package Specification; ComponentLink3URL: http://www.st.com/st-web-ui/static/active/en/resource/technical/document/data_brief/DM00071938.pdf
footprint STM-LQFP100_N (Thin QFP, 100-Leads, Body 14x14mm, Pitch 0.5mm, IPC Medium Density)
footprint STM-LQFP100_L (Thin QFP, 100-Leads, Body 14x14mm, Pitch 0.5mm, IPC High Density)
footprint STM-LQFP100_M (Thin QFP, 100-Leads, Body 14x14mm, Pitch 0.5mm, IPC Low Density)
footprint STM-LQFP100_V (Thin QFP, 100-Leads, Body 14x14mm, Pitch 0.5mm, ST Recommended)
part A pins: 1 PE2 (io) "PE2/TRACECK/FSMC_A23", 2 PE3 (io) "PE3/TRACED0/FSMC_A19", 3 PE4 (io) "PE4/TRACED1/FSMC_A20", 4 PE5 (io) "PE5/TRACED2/FSMC_A21/TIM9_CH1", 5 PE6 (io) "PE6/TRACED3/FSMC_A22/TIM9_CH2", 7 PC13-TAMPER-RTC (io) "PC13-TAMPER-RTC/PC13/TAMPER-RTC", 8 PC14-OSC32_IN (io) "PC14-OSC32_IN/PC14/OSC32_IN", 9 PC15-OSC32_OUT (io) "PC15-OSC32_OUT/PC15/OSC32_OUT", 12 OSC_IN (in), 13 OSC_OUT, 14 NRST (io), 15 PC0 (io) "PC0/ADC123_IN10", 16 PC1 (io) "PC1/ADC123_IN11", 17 PC2 (io) "PC2/ADC123_IN12", 18 PC3 (io) "PC3/ADC123_IN13", 23 PA0-WKUP (io) "PA0-WKUP/PA0/WKUP/USART2_CTS/ADC123_IN0/TIM2_CH1_ETR/TIM5_CH1/TIM8_ETR", 24 PA1 (io) "PA1/USART2_RTS/ADC123_IN1/TIM5_CH2/TIM2_CH2", 25 PA2 (io) "PA2/USART2_TX/TIM5_CH3/ADC123_IN2/TIM9_CH1/TIM2_CH3", 26 PA3 (io) "PA3/USART2_RX/TIM5_CH4/ADC123_IN3/TIM2_CH4/TIM9_CH2", 29 PA4 (io) "PA4/SPI1_NSS/USART2_CK/DAC_OUT1/ADC12_IN4", 30 PA5 (io) "PA5/SPI1_SCK/DAC_OUT2/ADC12_IN5", 31 PA6 (io) "PA6/SPI1_MISO/TIM8_BKIN/ADC12_IN6/TIM3_CH1/TIM13_CH1/TIM1_BKIN", 32 PA7 (io) "PA7/SPI1_MOSI/TIM8_CH1N/ADC12_IN7/TIM3_CH2/TIM14_CH1/TIM1_CH1N", 33 PC4 (io) "PC4/ADC12_IN14", 34 PC5 (io) "PC5/ADC12_IN15", 35 PB0 (io) "PB0/ADC12_IN8/TIM3_CH3/TIM8_CH2N/TIM1_CH2N", 36 PB1 (io) "PB1/ADC12_IN9/TIM3_CH4/TIM8_CH3N/TIM1_CH3N", 37 PB2 (io) "PB2/BOOT1", 38 PE7 (io) "PE7/FSMC_D4/TIM1_ETR", 39 PE8 (io) "PE8/FSMC_D5/TIM1_CH1N", 40 PE9 (io) "PE9/FSMC_D6/TIM1_CH1", 41 PE10 (io) "PE10/FSMC_D7/TIM1_CH2N", 42 PE11 (io) "PE11/FSMC_D8/TIM1_CH2", 43 PE12 (io) "PE12/FSMC_D9/TIM1_CH3N", 44 PE13 (io) "PE13/FSMC_D10/TIM1_CH3", 45 PE14 (io) "PE14/FSMC_D11/TIM1_CH4", 46 PE15 (io) "PE15/FSMC_D12/TIM1_BKIN", 47 PB10 (io) "PB10/I2C2_SCL/USART3_TX/TIM2_CH3", 48 PB11 (io) "PB11/I2C2_SDA/USART3_RX/TIM2_CH4", 51 PB12 (io) "PB12/SPI2_NSS/I2S2_WS/I2C2_SMBA/USART3_CK/TIM1_BKIN", 52 PB13 (io) "PB13/SPI2_SCK/I2S2_CK/USART3_CTS/TIM1_CH1N", 53 PB14 (io) "PB14/SPI2_MISO/TIM1_CH2N/USART3_RTS/TIM12_CH1", 54 PB15 (io) "PB15/SPI2_MOSI/I2S2_SD/TIM1_CH3N/TIM12_CH2", 55 PD8 (io) "PD8/FSMC_D13/USART3_TX", 56 PD9 (io) "PD9/FSMC_D14/USART3_RX", 57 PD10 (io) "PD10/FSMC_D15/USART3_CK", 58 PD11 (io) "PD11/FSMC_A16/USART3_CTS", 59 PD12 (io) "PD12/FSMC_A17/TIM4_CH1/USART3_RTS", 60 PD13 (io) "PD13/FSMC_A18/TIM4_CH2", 61 PD14 (io) "PD14/FSMC_D0/TIM4_CH3", 62 PD15 (io) "PD15/FSMC_D1/TIM4_CH4", 63 PC6 (io) "PC6/I2S2_MCK/TIM8_CH1/SDIO_D6/TIM3_CH1", 64 PC7 (io) "PC7/I2S3_MCK/TIM8_CH2/SDIO_D7/TIM3_CH2", 65 PC8 (io) "PC8/TIM8_CH3/SDIO_D0/TIM3_CH3", 66 PC9 (io) "PC9/TIM8_CH4/SDIO_D1/TIM3_CH4", 67 PA8 (io) "PA8/USART1_CK/TIM1_CH1/MCO", 68 PA9 (io) "PA9/USART1_TX/TIM1_CH2", 69 PA10 (io) "PA10/USART1_RX/TIM1_CH3", 70 PA11 (io) "PA11/USART1_CTS/USBDM/CAN_RX/TIM1_CH4", 71 PA12 (io) "PA12/USART1_RTS/USBDP/CAN_TX/TIM1_ETR", 72 PA13 (io) "PA13/JTMS-SWDIO", 73 NC, 76 PA14 (io) "PA14/JTCK-SWCLK", 77 PA15 (io) "PA15/JTDI/SPI3_NSS/I2S3_WS/TIM2_CH1_ETR/SPI1_NSS", 78 PC10 (io) "PC10/UART4_TX/SDIO_D2/USART3_TX", 79 PC11 (io) "PC11/UART4_RX/SDIO_D3/USART3_RX", 80 PC12 (io) "PC12/UART5_TX/SDIO_CK/USART3_CK", 81 PD0 (io) "PD0/FSMC_D2/CAN_RX", 82 PD1 (io) "PD1/FSMC_D3/CAN_TX", 83 PD2 (io) "PD2/TIM3_ETR/UART5_RX/SDIO_CMD", 84 PD3 (io) "PD3/FSMC_CLK/USART2_CTS", 85 PD4 (io) "PD4/FSMC_NOE/USART2_RTS", 86 PD5 (io) "PD5/FSMC_NWE/USART2_TX", 87 PD6 (io) "PD6/FSMC_NWAIT/USART2_RX", 88 PD7 (io) "PD7/FSMC_NE1/FSMC_NCE2/USART2_CK", 89 PB3 (io) "PB3/JTDO/SPI3_SCK/I2S3_CK/TRACESWO/TIM2_CH2/SPI1_SCK", 90 PB4 (io) "PB4/NJTRST/SPI3_MISO/TIM3_CH1/SPI1_MISO", 91 PB5 (io) "PB5/I2C1_SMBA/SPI3_MOSI/I2S3_SD/TIM3_CH2/SPI1_MOSI", 92 PB6 (io) "PB6/I2C1_SCL/TIM4_CH1/USART1_TX", 93 PB7 (io) "PB7/I2C1_SDA/FSMC_NADV/TIM4_CH2/USART1_RX", 94 BOOT0 (in), 95 PB8 (io) "PB8/TIM4_CH3/SDIO_D4/TIM10_CH1/I2C1_SCL/CAN_RX", 96 PB9 (io) "PB9/TIM4_CH4/SDIO_D5/TIM11_CH1/I2C1_SDA/CAN_TX", 97 PE0 (io) "PE0/TIM4_ETR/FSMC_NBL0", 98 PE1 (io) "PE1/FSMC_NBL1"
part B pins: 6 VBAT (power), 10 VSS_5 (power), 11 VDD_5 (power), 19 VSSA (power), 20 VREF- (power), 21 VREF+ (power), 22 VDDA (power), 27 VSS_4 (power), 28 VDD_4 (power), 49 VSS_1 (power), 50 VDD_1 (power), 74 VSS_2 (power), 75 VDD_2 (power), 99 VSS_3 (power), 100 VDD_3 (power)

## STM32F103VFT6TR
designator U?
ARM Cortex-M3 32-bit MCU, 768 KB Flash, 96 KB Internal RAM, 80 I/Os, 100-pin LQFP, -40 to 85 degC, Tape and Reel; PartNumber: STM32F103VFT6TR; A/D Converter: 3x12-bit (16 Channel); D/A Converter: 2x12-bit (2 Channel); FLASH Size (Prog) (kB): 768; I/Os (High Current): 80; Internal RAM Size (kB): 96; Operating Frequency(F) (Processor speed) (MHz): 72; Supply Voltage(Vcc) min (V): 2; DatasheetVersion: Rev. 3; PackageVersion: Rev. 1, 06/2013; PackageReference: LQFP100; PackageDescription: 100-Pin Low Profile Quad Flat Package, 14 x 14 mm Body, 0.5 mm Pitch; Supplier 1: Digi-Key; Supplier Part Number 1: STM32F103VFT6TR-ND; Supplier 2: Mouser; Supplier Part Number 2: 511-STM32F103VFT6TR; Core: ARM Cortex-M3; Packing: Tape and Reel; Mounting Technology: Surface Mount; ComponentLink1Description: Manufacturer URL; ComponentLink1URL: http://www.st.com/web/en/home.html; ComponentLink2Description: Datasheet; ComponentLink2URL: http://www.st.com/st-web-ui/static/active/en/resource/technical/document/datasheet/CD00253742.pdf; ComponentLink3Description: Package Specification; ComponentLink3URL: http://www.st.com/st-web-ui/static/active/en/resource/technical/document/data_brief/DM00071938.pdf
footprint STM-LQFP100_N (Thin QFP, 100-Leads, Body 14x14mm, Pitch 0.5mm, IPC Medium Density)
footprint STM-LQFP100_L (Thin QFP, 100-Leads, Body 14x14mm, Pitch 0.5mm, IPC High Density)
footprint STM-LQFP100_M (Thin QFP, 100-Leads, Body 14x14mm, Pitch 0.5mm, IPC Low Density)
footprint STM-LQFP100_V (Thin QFP, 100-Leads, Body 14x14mm, Pitch 0.5mm, ST Recommended)
part A pins: 1 PE2 (io) "PE2/TRACECK/FSMC_A23", 2 PE3 (io) "PE3/TRACED0/FSMC_A19", 3 PE4 (io) "PE4/TRACED1/FSMC_A20", 4 PE5 (io) "PE5/TRACED2/FSMC_A21/TIM9_CH1", 5 PE6 (io) "PE6/TRACED3/FSMC_A22/TIM9_CH2", 7 PC13-TAMPER-RTC (io) "PC13-TAMPER-RTC/PC13/TAMPER-RTC", 8 PC14-OSC32_IN (io) "PC14-OSC32_IN/PC14/OSC32_IN", 9 PC15-OSC32_OUT (io) "PC15-OSC32_OUT/PC15/OSC32_OUT", 12 OSC_IN (in), 13 OSC_OUT, 14 NRST (io), 15 PC0 (io) "PC0/ADC123_IN10", 16 PC1 (io) "PC1/ADC123_IN11", 17 PC2 (io) "PC2/ADC123_IN12", 18 PC3 (io) "PC3/ADC123_IN13", 23 PA0-WKUP (io) "PA0-WKUP/PA0/WKUP/USART2_CTS/ADC123_IN0/TIM2_CH1_ETR/TIM5_CH1/TIM8_ETR", 24 PA1 (io) "PA1/USART2_RTS/ADC123_IN1/TIM5_CH2/TIM2_CH2", 25 PA2 (io) "PA2/USART2_TX/TIM5_CH3/ADC123_IN2/TIM9_CH1/TIM2_CH3", 26 PA3 (io) "PA3/USART2_RX/TIM5_CH4/ADC123_IN3/TIM2_CH4/TIM9_CH2", 29 PA4 (io) "PA4/SPI1_NSS/USART2_CK/DAC_OUT1/ADC12_IN4", 30 PA5 (io) "PA5/SPI1_SCK/DAC_OUT2/ADC12_IN5", 31 PA6 (io) "PA6/SPI1_MISO/TIM8_BKIN/ADC12_IN6/TIM3_CH1/TIM13_CH1/TIM1_BKIN", 32 PA7 (io) "PA7/SPI1_MOSI/TIM8_CH1N/ADC12_IN7/TIM3_CH2/TIM14_CH1/TIM1_CH1N", 33 PC4 (io) "PC4/ADC12_IN14", 34 PC5 (io) "PC5/ADC12_IN15", 35 PB0 (io) "PB0/ADC12_IN8/TIM3_CH3/TIM8_CH2N/TIM1_CH2N", 36 PB1 (io) "PB1/ADC12_IN9/TIM3_CH4/TIM8_CH3N/TIM1_CH3N", 37 PB2 (io) "PB2/BOOT1", 38 PE7 (io) "PE7/FSMC_D4/TIM1_ETR", 39 PE8 (io) "PE8/FSMC_D5/TIM1_CH1N", 40 PE9 (io) "PE9/FSMC_D6/TIM1_CH1", 41 PE10 (io) "PE10/FSMC_D7/TIM1_CH2N", 42 PE11 (io) "PE11/FSMC_D8/TIM1_CH2", 43 PE12 (io) "PE12/FSMC_D9/TIM1_CH3N", 44 PE13 (io) "PE13/FSMC_D10/TIM1_CH3", 45 PE14 (io) "PE14/FSMC_D11/TIM1_CH4", 46 PE15 (io) "PE15/FSMC_D12/TIM1_BKIN", 47 PB10 (io) "PB10/I2C2_SCL/USART3_TX/TIM2_CH3", 48 PB11 (io) "PB11/I2C2_SDA/USART3_RX/TIM2_CH4", 51 PB12 (io) "PB12/SPI2_NSS/I2S2_WS/I2C2_SMBA/USART3_CK/TIM1_BKIN", 52 PB13 (io) "PB13/SPI2_SCK/I2S2_CK/USART3_CTS/TIM1_CH1N", 53 PB14 (io) "PB14/SPI2_MISO/TIM1_CH2N/USART3_RTS/TIM12_CH1", 54 PB15 (io) "PB15/SPI2_MOSI/I2S2_SD/TIM1_CH3N/TIM12_CH2", 55 PD8 (io) "PD8/FSMC_D13/USART3_TX", 56 PD9 (io) "PD9/FSMC_D14/USART3_RX", 57 PD10 (io) "PD10/FSMC_D15/USART3_CK", 58 PD11 (io) "PD11/FSMC_A16/USART3_CTS", 59 PD12 (io) "PD12/FSMC_A17/TIM4_CH1/USART3_RTS", 60 PD13 (io) "PD13/FSMC_A18/TIM4_CH2", 61 PD14 (io) "PD14/FSMC_D0/TIM4_CH3", 62 PD15 (io) "PD15/FSMC_D1/TIM4_CH4", 63 PC6 (io) "PC6/I2S2_MCK/TIM8_CH1/SDIO_D6/TIM3_CH1", 64 PC7 (io) "PC7/I2S3_MCK/TIM8_CH2/SDIO_D7/TIM3_CH2", 65 PC8 (io) "PC8/TIM8_CH3/SDIO_D0/TIM3_CH3", 66 PC9 (io) "PC9/TIM8_CH4/SDIO_D1/TIM3_CH4", 67 PA8 (io) "PA8/USART1_CK/TIM1_CH1/MCO", 68 PA9 (io) "PA9/USART1_TX/TIM1_CH2", 69 PA10 (io) "PA10/USART1_RX/TIM1_CH3", 70 PA11 (io) "PA11/USART1_CTS/USBDM/CAN_RX/TIM1_CH4", 71 PA12 (io) "PA12/USART1_RTS/USBDP/CAN_TX/TIM1_ETR", 72 PA13 (io) "PA13/JTMS-SWDIO", 73 NC, 76 PA14 (io) "PA14/JTCK-SWCLK", 77 PA15 (io) "PA15/JTDI/SPI3_NSS/I2S3_WS/TIM2_CH1_ETR/SPI1_NSS", 78 PC10 (io) "PC10/UART4_TX/SDIO_D2/USART3_TX", 79 PC11 (io) "PC11/UART4_RX/SDIO_D3/USART3_RX", 80 PC12 (io) "PC12/UART5_TX/SDIO_CK/USART3_CK", 81 PD0 (io) "PD0/FSMC_D2/CAN_RX", 82 PD1 (io) "PD1/FSMC_D3/CAN_TX", 83 PD2 (io) "PD2/TIM3_ETR/UART5_RX/SDIO_CMD", 84 PD3 (io) "PD3/FSMC_CLK/USART2_CTS", 85 PD4 (io) "PD4/FSMC_NOE/USART2_RTS", 86 PD5 (io) "PD5/FSMC_NWE/USART2_TX", 87 PD6 (io) "PD6/FSMC_NWAIT/USART2_RX", 88 PD7 (io) "PD7/FSMC_NE1/FSMC_NCE2/USART2_CK", 89 PB3 (io) "PB3/JTDO/SPI3_SCK/I2S3_CK/TRACESWO/TIM2_CH2/SPI1_SCK", 90 PB4 (io) "PB4/NJTRST/SPI3_MISO/TIM3_CH1/SPI1_MISO", 91 PB5 (io) "PB5/I2C1_SMBA/SPI3_MOSI/I2S3_SD/TIM3_CH2/SPI1_MOSI", 92 PB6 (io) "PB6/I2C1_SCL/TIM4_CH1/USART1_TX", 93 PB7 (io) "PB7/I2C1_SDA/FSMC_NADV/TIM4_CH2/USART1_RX", 94 BOOT0 (in), 95 PB8 (io) "PB8/TIM4_CH3/SDIO_D4/TIM10_CH1/I2C1_SCL/CAN_RX", 96 PB9 (io) "PB9/TIM4_CH4/SDIO_D5/TIM11_CH1/I2C1_SDA/CAN_TX", 97 PE0 (io) "PE0/TIM4_ETR/FSMC_NBL0", 98 PE1 (io) "PE1/FSMC_NBL1"
part B pins: 6 VBAT (power), 10 VSS_5 (power), 11 VDD_5 (power), 19 VSSA (power), 20 VREF- (power), 21 VREF+ (power), 22 VDDA (power), 27 VSS_4 (power), 28 VDD_4 (power), 49 VSS_1 (power), 50 VDD_1 (power), 74 VSS_2 (power), 75 VDD_2 (power), 99 VSS_3 (power), 100 VDD_3 (power)

## STM32F103VFT7
designator U?
ARM Cortex-M3 32-bit MCU, 768 KB Flash, 96 KB Internal RAM, 80 I/Os, 100-pin LQFP, -40 to 105 degC, Tray; PartNumber: STM32F103VFT7; A/D Converter: 3x12-bit (16 Channel); D/A Converter: 2x12-bit (2 Channel); FLASH Size (Prog) (kB): 768; I/Os (High Current): 80; Internal RAM Size (kB): 96; Operating Frequency(F) (Processor speed) (MHz): 72; Supply Voltage(Vcc) min (V): 2; DatasheetVersion: Rev. 3; PackageVersion: Rev. 1, 06/2013; PackageReference: LQFP100; PackageDescription: 100-Pin Low Profile Quad Flat Package, 14 x 14 mm Body, 0.5 mm Pitch; Supplier 1: Digi-Key; Supplier Part Number 1: STM32F103VFT7-ND; Supplier 2: Farnell; Supplier Part Number 2: 2333187; Supplier 3: Newark; Supplier Part Number 3: 99W9805; Supplier 4: Mouser; Supplier Part Number 4: 511-STM32F103VFT7; Core: ARM Cortex-M3; Packing: Tray; Mounting Technology: Surface Mount; ComponentLink1Description: Manufacturer URL; ComponentLink1URL: http://www.st.com/web/en/home.html; ComponentLink2Description: Datasheet; ComponentLink2URL: http://www.st.com/st-web-ui/static/active/en/resource/technical/document/datasheet/CD00253742.pdf; ComponentLink3Description: Package Specification; ComponentLink3URL: http://www.st.com/st-web-ui/static/active/en/resource/technical/document/data_brief/DM00071938.pdf
footprint STM-LQFP100_N (Thin QFP, 100-Leads, Body 14x14mm, Pitch 0.5mm, IPC Medium Density)
footprint STM-LQFP100_L (Thin QFP, 100-Leads, Body 14x14mm, Pitch 0.5mm, IPC High Density)
footprint STM-LQFP100_M (Thin QFP, 100-Leads, Body 14x14mm, Pitch 0.5mm, IPC Low Density)
footprint STM-LQFP100_V (Thin QFP, 100-Leads, Body 14x14mm, Pitch 0.5mm, ST Recommended)
part A pins: 1 PE2 (io) "PE2/TRACECK/FSMC_A23", 2 PE3 (io) "PE3/TRACED0/FSMC_A19", 3 PE4 (io) "PE4/TRACED1/FSMC_A20", 4 PE5 (io) "PE5/TRACED2/FSMC_A21/TIM9_CH1", 5 PE6 (io) "PE6/TRACED3/FSMC_A22/TIM9_CH2", 7 PC13-TAMPER-RTC (io) "PC13-TAMPER-RTC/PC13/TAMPER-RTC", 8 PC14-OSC32_IN (io) "PC14-OSC32_IN/PC14/OSC32_IN", 9 PC15-OSC32_OUT (io) "PC15-OSC32_OUT/PC15/OSC32_OUT", 12 OSC_IN (in), 13 OSC_OUT, 14 NRST (io), 15 PC0 (io) "PC0/ADC123_IN10", 16 PC1 (io) "PC1/ADC123_IN11", 17 PC2 (io) "PC2/ADC123_IN12", 18 PC3 (io) "PC3/ADC123_IN13", 23 PA0-WKUP (io) "PA0-WKUP/PA0/WKUP/USART2_CTS/ADC123_IN0/TIM2_CH1_ETR/TIM5_CH1/TIM8_ETR", 24 PA1 (io) "PA1/USART2_RTS/ADC123_IN1/TIM5_CH2/TIM2_CH2", 25 PA2 (io) "PA2/USART2_TX/TIM5_CH3/ADC123_IN2/TIM9_CH1/TIM2_CH3", 26 PA3 (io) "PA3/USART2_RX/TIM5_CH4/ADC123_IN3/TIM2_CH4/TIM9_CH2", 29 PA4 (io) "PA4/SPI1_NSS/USART2_CK/DAC_OUT1/ADC12_IN4", 30 PA5 (io) "PA5/SPI1_SCK/DAC_OUT2/ADC12_IN5", 31 PA6 (io) "PA6/SPI1_MISO/TIM8_BKIN/ADC12_IN6/TIM3_CH1/TIM13_CH1/TIM1_BKIN", 32 PA7 (io) "PA7/SPI1_MOSI/TIM8_CH1N/ADC12_IN7/TIM3_CH2/TIM14_CH1/TIM1_CH1N", 33 PC4 (io) "PC4/ADC12_IN14", 34 PC5 (io) "PC5/ADC12_IN15", 35 PB0 (io) "PB0/ADC12_IN8/TIM3_CH3/TIM8_CH2N/TIM1_CH2N", 36 PB1 (io) "PB1/ADC12_IN9/TIM3_CH4/TIM8_CH3N/TIM1_CH3N", 37 PB2 (io) "PB2/BOOT1", 38 PE7 (io) "PE7/FSMC_D4/TIM1_ETR", 39 PE8 (io) "PE8/FSMC_D5/TIM1_CH1N", 40 PE9 (io) "PE9/FSMC_D6/TIM1_CH1", 41 PE10 (io) "PE10/FSMC_D7/TIM1_CH2N", 42 PE11 (io) "PE11/FSMC_D8/TIM1_CH2", 43 PE12 (io) "PE12/FSMC_D9/TIM1_CH3N", 44 PE13 (io) "PE13/FSMC_D10/TIM1_CH3", 45 PE14 (io) "PE14/FSMC_D11/TIM1_CH4", 46 PE15 (io) "PE15/FSMC_D12/TIM1_BKIN", 47 PB10 (io) "PB10/I2C2_SCL/USART3_TX/TIM2_CH3", 48 PB11 (io) "PB11/I2C2_SDA/USART3_RX/TIM2_CH4", 51 PB12 (io) "PB12/SPI2_NSS/I2S2_WS/I2C2_SMBA/USART3_CK/TIM1_BKIN", 52 PB13 (io) "PB13/SPI2_SCK/I2S2_CK/USART3_CTS/TIM1_CH1N", 53 PB14 (io) "PB14/SPI2_MISO/TIM1_CH2N/USART3_RTS/TIM12_CH1", 54 PB15 (io) "PB15/SPI2_MOSI/I2S2_SD/TIM1_CH3N/TIM12_CH2", 55 PD8 (io) "PD8/FSMC_D13/USART3_TX", 56 PD9 (io) "PD9/FSMC_D14/USART3_RX", 57 PD10 (io) "PD10/FSMC_D15/USART3_CK", 58 PD11 (io) "PD11/FSMC_A16/USART3_CTS", 59 PD12 (io) "PD12/FSMC_A17/TIM4_CH1/USART3_RTS", 60 PD13 (io) "PD13/FSMC_A18/TIM4_CH2", 61 PD14 (io) "PD14/FSMC_D0/TIM4_CH3", 62 PD15 (io) "PD15/FSMC_D1/TIM4_CH4", 63 PC6 (io) "PC6/I2S2_MCK/TIM8_CH1/SDIO_D6/TIM3_CH1", 64 PC7 (io) "PC7/I2S3_MCK/TIM8_CH2/SDIO_D7/TIM3_CH2", 65 PC8 (io) "PC8/TIM8_CH3/SDIO_D0/TIM3_CH3", 66 PC9 (io) "PC9/TIM8_CH4/SDIO_D1/TIM3_CH4", 67 PA8 (io) "PA8/USART1_CK/TIM1_CH1/MCO", 68 PA9 (io) "PA9/USART1_TX/TIM1_CH2", 69 PA10 (io) "PA10/USART1_RX/TIM1_CH3", 70 PA11 (io) "PA11/USART1_CTS/USBDM/CAN_RX/TIM1_CH4", 71 PA12 (io) "PA12/USART1_RTS/USBDP/CAN_TX/TIM1_ETR", 72 PA13 (io) "PA13/JTMS-SWDIO", 73 NC, 76 PA14 (io) "PA14/JTCK-SWCLK", 77 PA15 (io) "PA15/JTDI/SPI3_NSS/I2S3_WS/TIM2_CH1_ETR/SPI1_NSS", 78 PC10 (io) "PC10/UART4_TX/SDIO_D2/USART3_TX", 79 PC11 (io) "PC11/UART4_RX/SDIO_D3/USART3_RX", 80 PC12 (io) "PC12/UART5_TX/SDIO_CK/USART3_CK", 81 PD0 (io) "PD0/FSMC_D2/CAN_RX", 82 PD1 (io) "PD1/FSMC_D3/CAN_TX", 83 PD2 (io) "PD2/TIM3_ETR/UART5_RX/SDIO_CMD", 84 PD3 (io) "PD3/FSMC_CLK/USART2_CTS", 85 PD4 (io) "PD4/FSMC_NOE/USART2_RTS", 86 PD5 (io) "PD5/FSMC_NWE/USART2_TX", 87 PD6 (io) "PD6/FSMC_NWAIT/USART2_RX", 88 PD7 (io) "PD7/FSMC_NE1/FSMC_NCE2/USART2_CK", 89 PB3 (io) "PB3/JTDO/SPI3_SCK/I2S3_CK/TRACESWO/TIM2_CH2/SPI1_SCK", 90 PB4 (io) "PB4/NJTRST/SPI3_MISO/TIM3_CH1/SPI1_MISO", 91 PB5 (io) "PB5/I2C1_SMBA/SPI3_MOSI/I2S3_SD/TIM3_CH2/SPI1_MOSI", 92 PB6 (io) "PB6/I2C1_SCL/TIM4_CH1/USART1_TX", 93 PB7 (io) "PB7/I2C1_SDA/FSMC_NADV/TIM4_CH2/USART1_RX", 94 BOOT0 (in), 95 PB8 (io) "PB8/TIM4_CH3/SDIO_D4/TIM10_CH1/I2C1_SCL/CAN_RX", 96 PB9 (io) "PB9/TIM4_CH4/SDIO_D5/TIM11_CH1/I2C1_SDA/CAN_TX", 97 PE0 (io) "PE0/TIM4_ETR/FSMC_NBL0", 98 PE1 (io) "PE1/FSMC_NBL1"
part B pins: 6 VBAT (power), 10 VSS_5 (power), 11 VDD_5 (power), 19 VSSA (power), 20 VREF- (power), 21 VREF+ (power), 22 VDDA (power), 27 VSS_4 (power), 28 VDD_4 (power), 49 VSS_1 (power), 50 VDD_1 (power), 74 VSS_2 (power), 75 VDD_2 (power), 99 VSS_3 (power), 100 VDD_3 (power)

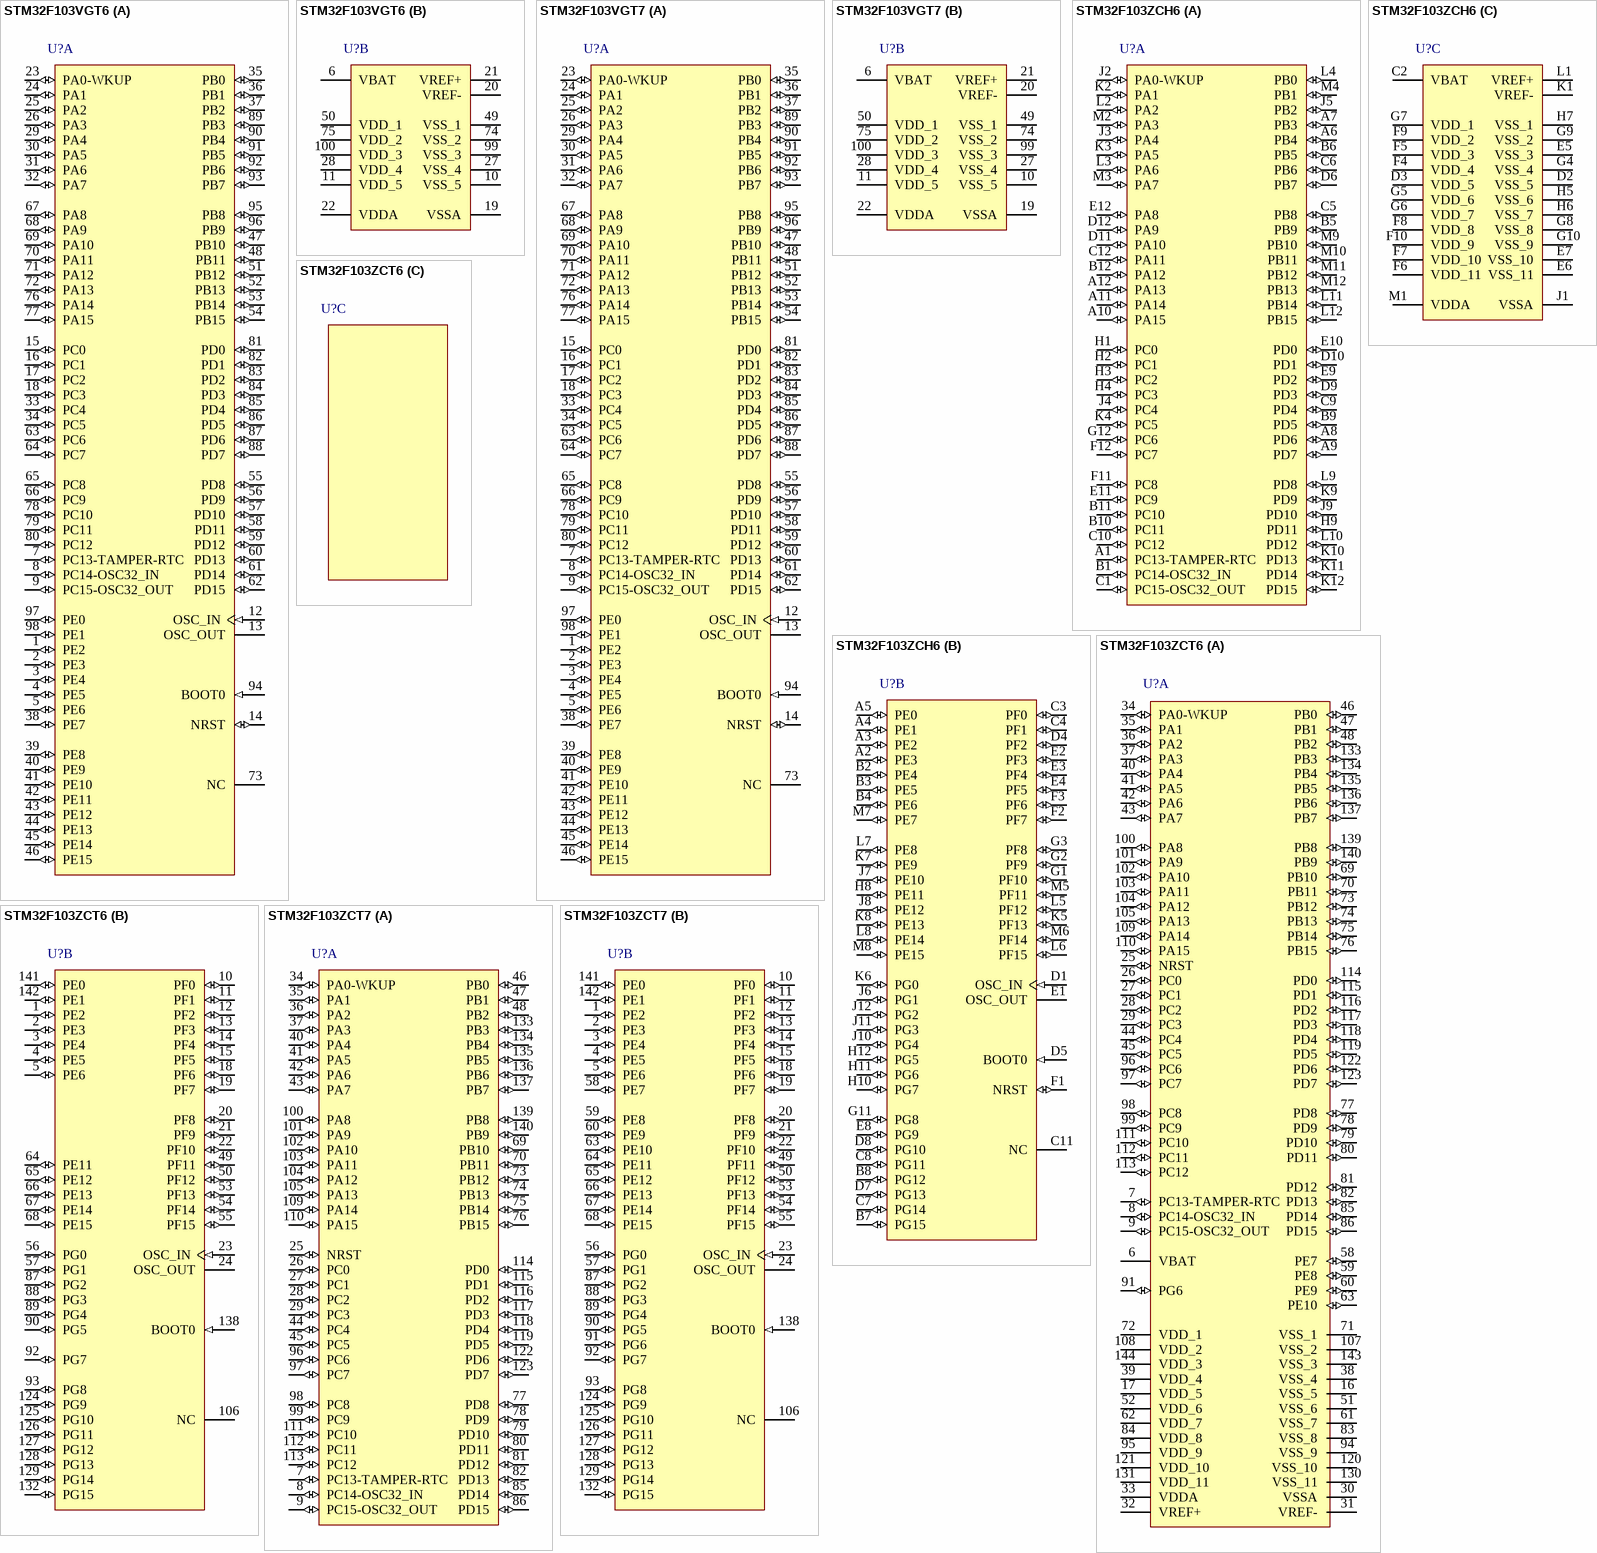
[diagram p33: symbols STM32F103VGT6 to STM32F103ZCT7]

## STM32F103VGT6
designator U?
ARM Cortex-M3 32-bit MCU, 1024 KB Flash, 96 KB Internal RAM, 80 I/Os, 100-pin LQFP, -40 to 85 degC, Tray; PartNumber: STM32F103VGT6; A/D Converter: 3x12-bit (16 Channel); D/A Converter: 2x12-bit (2 Channel); FLASH Size (Prog) (kB): 1024; I/Os (High Current): 80; Internal RAM Size (kB): 96; Operating Frequency(F) (Processor speed) (MHz): 72; Supply Voltage(Vcc) min (V): 2; DatasheetVersion: Rev. 3; PackageVersion: Rev. 1, 06/2013; PackageReference: LQFP100; PackageDescription: 100-Pin Low Profile Quad Flat Package, 14 x 14 mm Body, 0.5 mm Pitch; Supplier 1: Digi-Key; Supplier Part Number 1: 497-11120-ND; Supplier 2: Farnell; Supplier Part Number 2: 1899021; Supplier 3: Farnell; Supplier Part Number 3: 1889031; Supplier 4: Newark; Supplier Part Number 4: 55T3938; Supplier 5: Newark; Supplier Part Number 5: 21T4018; Supplier 6: Mouser; Supplier Part Number 6: 511-STM32F103VGT6; Core: ARM Cortex-M3; Packing: Tray; Mounting Technology: Surface Mount; ComponentLink1Description: Manufacturer URL; ComponentLink1URL: http://www.st.com/web/en/home.html; ComponentLink2Description: Datasheet; ComponentLink2URL: http://www.st.com/st-web-ui/static/active/en/resource/technical/document/datasheet/CD00253742.pdf; ComponentLink3Description: Package Specification; ComponentLink3URL: http://www.st.com/st-web-ui/static/active/en/resource/technical/document/data_brief/DM00071938.pdf
footprint STM-LQFP100_N (Thin QFP, 100-Leads, Body 14x14mm, Pitch 0.5mm, IPC Medium Density)
footprint STM-LQFP100_L (Thin QFP, 100-Leads, Body 14x14mm, Pitch 0.5mm, IPC High Density)
footprint STM-LQFP100_M (Thin QFP, 100-Leads, Body 14x14mm, Pitch 0.5mm, IPC Low Density)
footprint STM-LQFP100_V (Thin QFP, 100-Leads, Body 14x14mm, Pitch 0.5mm, ST Recommended)
part A pins: 1 PE2 (io) "PE2/TRACECK/FSMC_A23", 2 PE3 (io) "PE3/TRACED0/FSMC_A19", 3 PE4 (io) "PE4/TRACED1/FSMC_A20", 4 PE5 (io) "PE5/TRACED2/FSMC_A21/TIM9_CH1", 5 PE6 (io) "PE6/TRACED3/FSMC_A22/TIM9_CH2", 7 PC13-TAMPER-RTC (io) "PC13-TAMPER-RTC/PC13/TAMPER-RTC", 8 PC14-OSC32_IN (io) "PC14-OSC32_IN/PC14/OSC32_IN", 9 PC15-OSC32_OUT (io) "PC15-OSC32_OUT/PC15/OSC32_OUT", 12 OSC_IN (in), 13 OSC_OUT, 14 NRST (io), 15 PC0 (io) "PC0/ADC123_IN10", 16 PC1 (io) "PC1/ADC123_IN11", 17 PC2 (io) "PC2/ADC123_IN12", 18 PC3 (io) "PC3/ADC123_IN13", 23 PA0-WKUP (io) "PA0-WKUP/PA0/WKUP/USART2_CTS/ADC123_IN0/TIM2_CH1_ETR/TIM5_CH1/TIM8_ETR", 24 PA1 (io) "PA1/USART2_RTS/ADC123_IN1/TIM5_CH2/TIM2_CH2", 25 PA2 (io) "PA2/USART2_TX/TIM5_CH3/ADC123_IN2/TIM9_CH1/TIM2_CH3", 26 PA3 (io) "PA3/USART2_RX/TIM5_CH4/ADC123_IN3/TIM2_CH4/TIM9_CH2", 29 PA4 (io) "PA4/SPI1_NSS/USART2_CK/DAC_OUT1/ADC12_IN4", 30 PA5 (io) "PA5/SPI1_SCK/DAC_OUT2/ADC12_IN5", 31 PA6 (io) "PA6/SPI1_MISO/TIM8_BKIN/ADC12_IN6/TIM3_CH1/TIM13_CH1/TIM1_BKIN", 32 PA7 (io) "PA7/SPI1_MOSI/TIM8_CH1N/ADC12_IN7/TIM3_CH2/TIM14_CH1/TIM1_CH1N", 33 PC4 (io) "PC4/ADC12_IN14", 34 PC5 (io) "PC5/ADC12_IN15", 35 PB0 (io) "PB0/ADC12_IN8/TIM3_CH3/TIM8_CH2N/TIM1_CH2N", 36 PB1 (io) "PB1/ADC12_IN9/TIM3_CH4/TIM8_CH3N/TIM1_CH3N", 37 PB2 (io) "PB2/BOOT1", 38 PE7 (io) "PE7/FSMC_D4/TIM1_ETR", 39 PE8 (io) "PE8/FSMC_D5/TIM1_CH1N", 40 PE9 (io) "PE9/FSMC_D6/TIM1_CH1", 41 PE10 (io) "PE10/FSMC_D7/TIM1_CH2N", 42 PE11 (io) "PE11/FSMC_D8/TIM1_CH2", 43 PE12 (io) "PE12/FSMC_D9/TIM1_CH3N", 44 PE13 (io) "PE13/FSMC_D10/TIM1_CH3", 45 PE14 (io) "PE14/FSMC_D11/TIM1_CH4", 46 PE15 (io) "PE15/FSMC_D12/TIM1_BKIN", 47 PB10 (io) "PB10/I2C2_SCL/USART3_TX/TIM2_CH3", 48 PB11 (io) "PB11/I2C2_SDA/USART3_RX/TIM2_CH4", 51 PB12 (io) "PB12/SPI2_NSS/I2S2_WS/I2C2_SMBA/USART3_CK/TIM1_BKIN", 52 PB13 (io) "PB13/SPI2_SCK/I2S2_CK/USART3_CTS/TIM1_CH1N", 53 PB14 (io) "PB14/SPI2_MISO/TIM1_CH2N/USART3_RTS/TIM12_CH1", 54 PB15 (io) "PB15/SPI2_MOSI/I2S2_SD/TIM1_CH3N/TIM12_CH2", 55 PD8 (io) "PD8/FSMC_D13/USART3_TX", 56 PD9 (io) "PD9/FSMC_D14/USART3_RX", 57 PD10 (io) "PD10/FSMC_D15/USART3_CK", 58 PD11 (io) "PD11/FSMC_A16/USART3_CTS", 59 PD12 (io) "PD12/FSMC_A17/TIM4_CH1/USART3_RTS", 60 PD13 (io) "PD13/FSMC_A18/TIM4_CH2", 61 PD14 (io) "PD14/FSMC_D0/TIM4_CH3", 62 PD15 (io) "PD15/FSMC_D1/TIM4_CH4", 63 PC6 (io) "PC6/I2S2_MCK/TIM8_CH1/SDIO_D6/TIM3_CH1", 64 PC7 (io) "PC7/I2S3_MCK/TIM8_CH2/SDIO_D7/TIM3_CH2", 65 PC8 (io) "PC8/TIM8_CH3/SDIO_D0/TIM3_CH3", 66 PC9 (io) "PC9/TIM8_CH4/SDIO_D1/TIM3_CH4", 67 PA8 (io) "PA8/USART1_CK/TIM1_CH1/MCO", 68 PA9 (io) "PA9/USART1_TX/TIM1_CH2", 69 PA10 (io) "PA10/USART1_RX/TIM1_CH3", 70 PA11 (io) "PA11/USART1_CTS/USBDM/CAN_RX/TIM1_CH4", 71 PA12 (io) "PA12/USART1_RTS/USBDP/CAN_TX/TIM1_ETR", 72 PA13 (io) "PA13/JTMS-SWDIO", 73 NC, 76 PA14 (io) "PA14/JTCK-SWCLK", 77 PA15 (io) "PA15/JTDI/SPI3_NSS/I2S3_WS/TIM2_CH1_ETR/SPI1_NSS", 78 PC10 (io) "PC10/UART4_TX/SDIO_D2/USART3_TX", 79 PC11 (io) "PC11/UART4_RX/SDIO_D3/USART3_RX", 80 PC12 (io) "PC12/UART5_TX/SDIO_CK/USART3_CK", 81 PD0 (io) "PD0/FSMC_D2/CAN_RX", 82 PD1 (io) "PD1/FSMC_D3/CAN_TX", 83 PD2 (io) "PD2/TIM3_ETR/UART5_RX/SDIO_CMD", 84 PD3 (io) "PD3/FSMC_CLK/USART2_CTS", 85 PD4 (io) "PD4/FSMC_NOE/USART2_RTS", 86 PD5 (io) "PD5/FSMC_NWE/USART2_TX", 87 PD6 (io) "PD6/FSMC_NWAIT/USART2_RX", 88 PD7 (io) "PD7/FSMC_NE1/FSMC_NCE2/USART2_CK", 89 PB3 (io) "PB3/JTDO/SPI3_SCK/I2S3_CK/TRACESWO/TIM2_CH2/SPI1_SCK", 90 PB4 (io) "PB4/NJTRST/SPI3_MISO/TIM3_CH1/SPI1_MISO", 91 PB5 (io) "PB5/I2C1_SMBA/SPI3_MOSI/I2S3_SD/TIM3_CH2/SPI1_MOSI", 92 PB6 (io) "PB6/I2C1_SCL/TIM4_CH1/USART1_TX", 93 PB7 (io) "PB7/I2C1_SDA/FSMC_NADV/TIM4_CH2/USART1_RX", 94 BOOT0 (in), 95 PB8 (io) "PB8/TIM4_CH3/SDIO_D4/TIM10_CH1/I2C1_SCL/CAN_RX", 96 PB9 (io) "PB9/TIM4_CH4/SDIO_D5/TIM11_CH1/I2C1_SDA/CAN_TX", 97 PE0 (io) "PE0/TIM4_ETR/FSMC_NBL0", 98 PE1 (io) "PE1/FSMC_NBL1"
part B pins: 6 VBAT (power), 10 VSS_5 (power), 11 VDD_5 (power), 19 VSSA (power), 20 VREF- (power), 21 VREF+ (power), 22 VDDA (power), 27 VSS_4 (power), 28 VDD_4 (power), 49 VSS_1 (power), 50 VDD_1 (power), 74 VSS_2 (power), 75 VDD_2 (power), 99 VSS_3 (power), 100 VDD_3 (power)